# Altium integrated library Renesas Microcontroller 740.IntLib: 274 symbols (part 2 of 13)
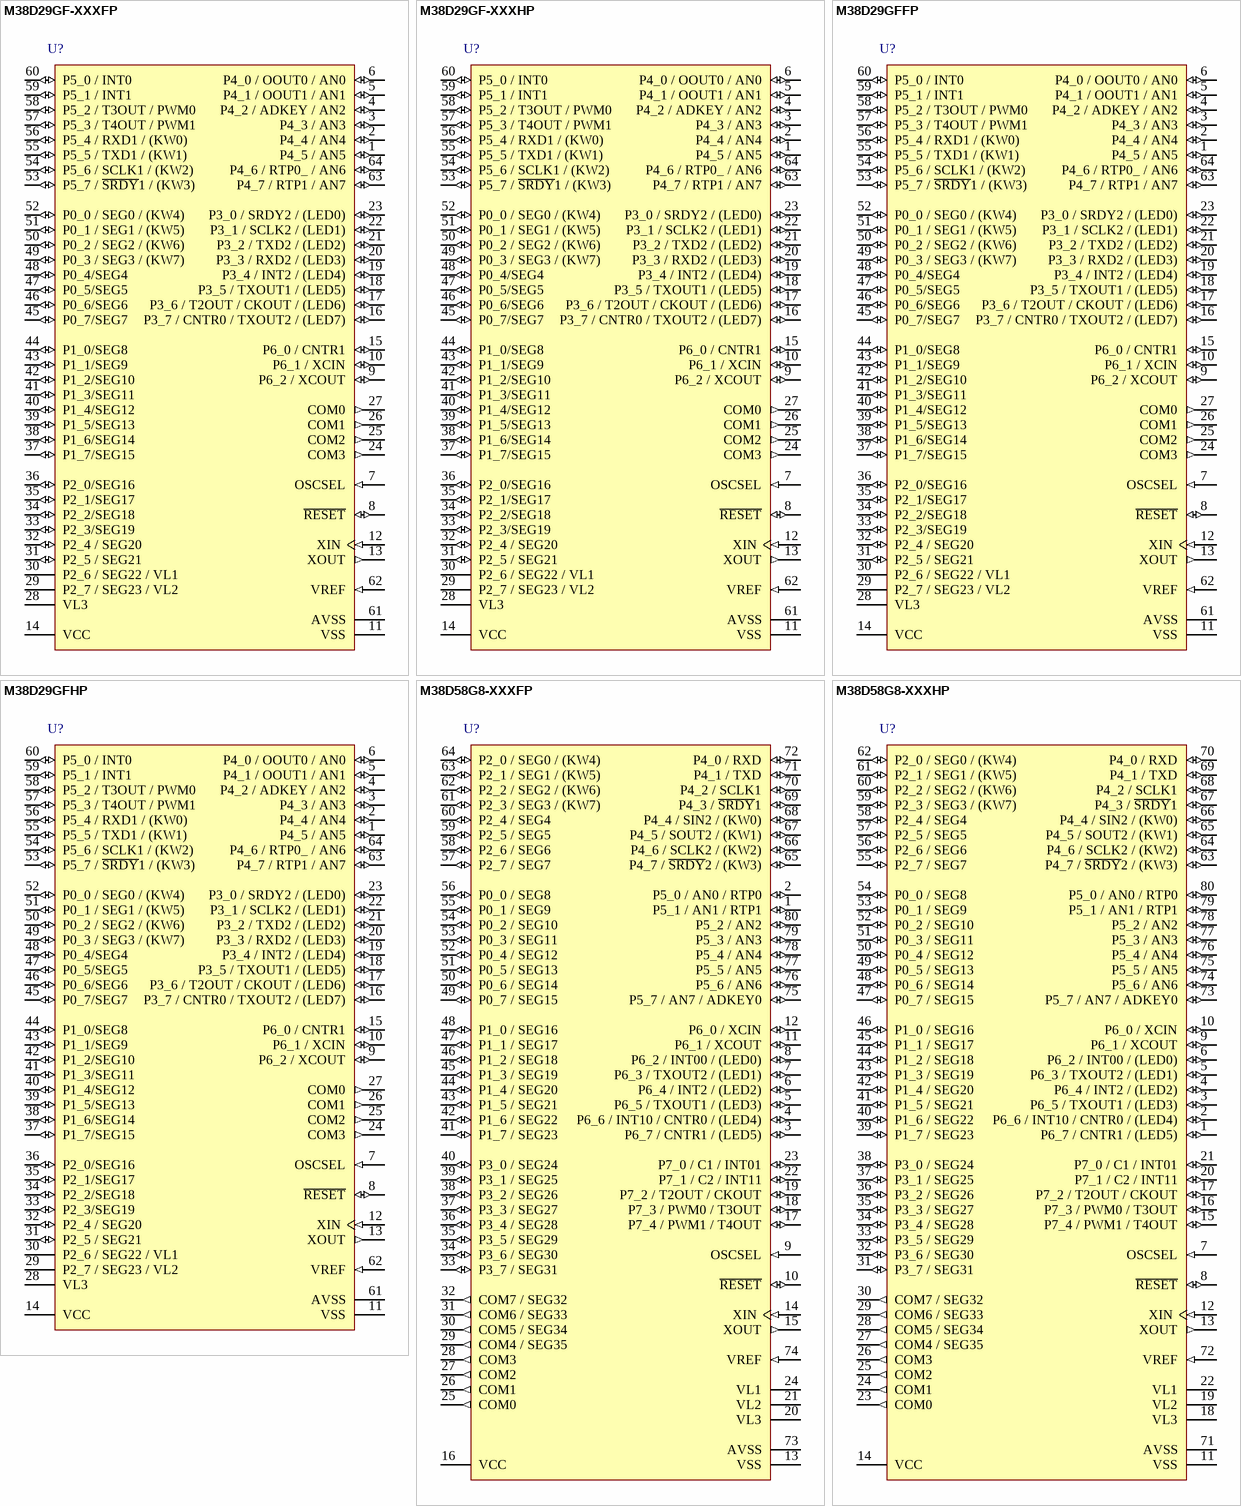
[diagram p38: symbols M38D29GF-XXXFP to M38D58G8-XXXHP]

## M38D29GF-XXXHP
designator U?
QzROM 8-BIT CMOS Microcomputer, 38000/740 Series CPU, 38D2 Group, 60K ROM, 2K RAM, 64P6Q-A Pkg; Published: 28-Aug-2009; DatasheetVersion: Rev.3.02, Apr-2008; PackageVersion: Sep-2005; PackageReference: PLQP0064KB-A; Publisher: Altium Limited; PackageDescription: 64-Pin Plastic Low Profile QFP, 10 x 10 x 1.4 mm Body, 0.5 mm Pitch; Code_JEITA: P-LQFP64-10x10-0.50; Code_IPC: SQFP50P1200X1200-64; ComponentLink1Description: Manufacturer Link; ComponentLink1URL: http://sg.renesas.com/fmwk.jsp?cnt=740_family_landing.jsp&fp=/products/mpumcu/740_family/; ComponentLink2Description: Datasheet; ComponentLink2URL: http://documentation.renesas.com/eng/products/mpumcu/rej03b0177_38d2ds.pdf; ComponentLink3Description: Packaging Specification; ComponentLink3URL: http://sg.renesas.com/media/products/common_info/package/pdf/ic/code/plqp0064kb_a.pdf
footprint PLQP0064KB-A_N (Shrink QFP, 64-Leads, Body 10x10mm, Pitch 0.5mm, IPC Medium Density)
footprint PLQP0064KB-A_L (Shrink QFP, 64-Leads, Body 10x10mm, Pitch 0.5mm, IPC High Density)
footprint PLQP0064KB-A_M (Shrink QFP, 64-Leads, Body 10x10mm, Pitch 0.5mm, IPC Low Density)
pins: 1 P4_5 / AN5 (io), 2 P4_4 / AN4 (io), 3 P4_3 / AN3 (io), 4 P4_2 / ADKEY / AN2 (io), 5 P4_1 / OOUT1 / AN1 (io), 6 P4_0 / OOUT0 / AN0 (io), 7 OSCSEL (in), 8 ~{RESET} (io), 9 P6_2 / XCOUT (io), 10 P6_1 / XCIN (io), 11 VSS (power), 12 XIN (in), 13 XOUT (out), 14 VCC (power), 15 P6_0 / CNTR1 (io), 16 P3_7 / CNTR0 / TXOUT2 / (LED7) (io), 17 P3_6 / T2OUT / CKOUT / (LED6) (io), 18 P3_5 / TXOUT1 / (LED5) (io), 19 P3_4 / INT2 / (LED4) (io), 20 P3_3 / RXD2 / (LED3) (io), 21 P3_2 / TXD2 / (LED2) (io), 22 P3_1 / SCLK2 / (LED1) (io), 23 P3_0 / SRDY2 / (LED0) (io), 24 COM3 (out), 25 COM2 (out), 26 COM1 (out), 27 COM0 (out), 28 VL3 (power), 29 P2_7 / SEG23 / VL2, 30 P2_6 / SEG22 / VL1, 31 P2_5 / SEG21 (io), 32 P2_4 / SEG20 (io), 33 P2_3/SEG19 (io), 34 P2_2/SEG18 (io), 35 P2_1/SEG17 (io), 36 P2_0/SEG16 (io), 37 P1_7/SEG15 (io), 38 P1_6/SEG14 (io), 39 P1_5/SEG13 (io), 40 P1_4/SEG12 (io), 41 P1_3/SEG11 (io), 42 P1_2/SEG10 (io), 43 P1_1/SEG9 (io), 44 P1_0/SEG8 (io), 45 P0_7/SEG7 (io), 46 P0_6/SEG6 (io), 47 P0_5/SEG5 (io), 48 P0_4/SEG4 (io), 49 P0_3 / SEG3 / (KW7) (io), 50 P0_2 / SEG2 / (KW6) (io), 51 P0_1 / SEG1 / (KW5) (io), 52 P0_0 / SEG0 / (KW4) (io), 53 P5_7 / ~{SRDY}1 / (KW3) (io), 54 P5_6 / SCLK1 / (KW2) (io), 55 P5_5 / TXD1 / (KW1) (io), 56 P5_4 / RXD1 / (KW0) (io), 57 P5_3 / T4OUT / PWM1 (io), 58 P5_2 / T3OUT / PWM0 (io), 59 P5_1 / INT1 (io), 60 P5_0 / INT0 (io), 61 AVSS (power), 62 VREF (in), 63 P4_7 / RTP1 / AN7 (io), 64 P4_6 / RTP0_ / AN6 (io)

## M38D29GFFP
designator U?
QzROM 8-BIT CMOS Microcomputer, 38000/740 Series CPU, 38D2 Group, 60K ROM, 2K RAM, 64P6U-A Pkg, shipped in blank; Published: 28-Aug-2009; DatasheetVersion: Rev.3.02, Apr-2008; PackageVersion: Oct-2005; PackageReference: PLQP0064GA-A; Publisher: Altium Limited; PackageDescription: 64-Pin Plastic Low Profile QFP, 14 x 14 x 1.4 mm Body, 0.8 mm Pitch; Code_JEITA: P-LQFP64-14x14-0.80; ComponentLink1Description: Manufacturer Link; ComponentLink1URL: http://sg.renesas.com/fmwk.jsp?cnt=740_family_landing.jsp&fp=/products/mpumcu/740_family/; ComponentLink2Description: Datasheet; ComponentLink2URL: http://documentation.renesas.com/eng/products/mpumcu/rej03b0177_38d2ds.pdf; ComponentLink3Description: Packaging Specification; ComponentLink3URL: http://sg.renesas.com/media/products/common_info/package/pdf/ic/code/plqp0064ga_a.pdf
footprint PLQP0064GA-A_N (QFP, 64-Leads, Body 14x14mm, Pitch 0.8mm, IPC Medium Density)
footprint PLQP0064GA-A_L (QFP, 64-Leads, Body 14x14mm, Pitch 0.8mm, IPC High Density)
footprint PLQP0064GA-A_M (QFP, 64-Leads, Body 14x14mm, Pitch 0.8mm, IPC Low Density)
pins: 1 P4_5 / AN5 (io), 2 P4_4 / AN4 (io), 3 P4_3 / AN3 (io), 4 P4_2 / ADKEY / AN2 (io), 5 P4_1 / OOUT1 / AN1 (io), 6 P4_0 / OOUT0 / AN0 (io), 7 OSCSEL (in), 8 ~{RESET} (io), 9 P6_2 / XCOUT (io), 10 P6_1 / XCIN (io), 11 VSS (power), 12 XIN (in), 13 XOUT (out), 14 VCC (power), 15 P6_0 / CNTR1 (io), 16 P3_7 / CNTR0 / TXOUT2 / (LED7) (io), 17 P3_6 / T2OUT / CKOUT / (LED6) (io), 18 P3_5 / TXOUT1 / (LED5) (io), 19 P3_4 / INT2 / (LED4) (io), 20 P3_3 / RXD2 / (LED3) (io), 21 P3_2 / TXD2 / (LED2) (io), 22 P3_1 / SCLK2 / (LED1) (io), 23 P3_0 / SRDY2 / (LED0) (io), 24 COM3 (out), 25 COM2 (out), 26 COM1 (out), 27 COM0 (out), 28 VL3 (power), 29 P2_7 / SEG23 / VL2, 30 P2_6 / SEG22 / VL1, 31 P2_5 / SEG21 (io), 32 P2_4 / SEG20 (io), 33 P2_3/SEG19 (io), 34 P2_2/SEG18 (io), 35 P2_1/SEG17 (io), 36 P2_0/SEG16 (io), 37 P1_7/SEG15 (io), 38 P1_6/SEG14 (io), 39 P1_5/SEG13 (io), 40 P1_4/SEG12 (io), 41 P1_3/SEG11 (io), 42 P1_2/SEG10 (io), 43 P1_1/SEG9 (io), 44 P1_0/SEG8 (io), 45 P0_7/SEG7 (io), 46 P0_6/SEG6 (io), 47 P0_5/SEG5 (io), 48 P0_4/SEG4 (io), 49 P0_3 / SEG3 / (KW7) (io), 50 P0_2 / SEG2 / (KW6) (io), 51 P0_1 / SEG1 / (KW5) (io), 52 P0_0 / SEG0 / (KW4) (io), 53 P5_7 / ~{SRDY}1 / (KW3) (io), 54 P5_6 / SCLK1 / (KW2) (io), 55 P5_5 / TXD1 / (KW1) (io), 56 P5_4 / RXD1 / (KW0) (io), 57 P5_3 / T4OUT / PWM1 (io), 58 P5_2 / T3OUT / PWM0 (io), 59 P5_1 / INT1 (io), 60 P5_0 / INT0 (io), 61 AVSS (power), 62 VREF (in), 63 P4_7 / RTP1 / AN7 (io), 64 P4_6 / RTP0_ / AN6 (io)

## M38D29GFHP
designator U?
QzROM 8-BIT CMOS Microcomputer, 38000/740 Series CPU, 38D2 Group, 60K ROM, 2K RAM, 64P6Q-A Pkg, shipped in blank; Published: 28-Aug-2009; DatasheetVersion: Rev.3.02, Apr-2008; PackageVersion: Sep-2005; PackageReference: PLQP0064KB-A; Publisher: Altium Limited; PackageDescription: 64-Pin Plastic Low Profile QFP, 10 x 10 x 1.4 mm Body, 0.5 mm Pitch; Code_JEITA: P-LQFP64-10x10-0.50; Code_IPC: SQFP50P1200X1200-64; ComponentLink1Description: Manufacturer Link; ComponentLink1URL: http://sg.renesas.com/fmwk.jsp?cnt=740_family_landing.jsp&fp=/products/mpumcu/740_family/; ComponentLink2Description: Datasheet; ComponentLink2URL: http://documentation.renesas.com/eng/products/mpumcu/rej03b0177_38d2ds.pdf; ComponentLink3Description: Packaging Specification; ComponentLink3URL: http://sg.renesas.com/media/products/common_info/package/pdf/ic/code/plqp0064kb_a.pdf
footprint PLQP0064KB-A_N (Shrink QFP, 64-Leads, Body 10x10mm, Pitch 0.5mm, IPC Medium Density)
footprint PLQP0064KB-A_L (Shrink QFP, 64-Leads, Body 10x10mm, Pitch 0.5mm, IPC High Density)
footprint PLQP0064KB-A_M (Shrink QFP, 64-Leads, Body 10x10mm, Pitch 0.5mm, IPC Low Density)
pins: 1 P4_5 / AN5 (io), 2 P4_4 / AN4 (io), 3 P4_3 / AN3 (io), 4 P4_2 / ADKEY / AN2 (io), 5 P4_1 / OOUT1 / AN1 (io), 6 P4_0 / OOUT0 / AN0 (io), 7 OSCSEL (in), 8 ~{RESET} (io), 9 P6_2 / XCOUT (io), 10 P6_1 / XCIN (io), 11 VSS (power), 12 XIN (in), 13 XOUT (out), 14 VCC (power), 15 P6_0 / CNTR1 (io), 16 P3_7 / CNTR0 / TXOUT2 / (LED7) (io), 17 P3_6 / T2OUT / CKOUT / (LED6) (io), 18 P3_5 / TXOUT1 / (LED5) (io), 19 P3_4 / INT2 / (LED4) (io), 20 P3_3 / RXD2 / (LED3) (io), 21 P3_2 / TXD2 / (LED2) (io), 22 P3_1 / SCLK2 / (LED1) (io), 23 P3_0 / SRDY2 / (LED0) (io), 24 COM3 (out), 25 COM2 (out), 26 COM1 (out), 27 COM0 (out), 28 VL3 (power), 29 P2_7 / SEG23 / VL2, 30 P2_6 / SEG22 / VL1, 31 P2_5 / SEG21 (io), 32 P2_4 / SEG20 (io), 33 P2_3/SEG19 (io), 34 P2_2/SEG18 (io), 35 P2_1/SEG17 (io), 36 P2_0/SEG16 (io), 37 P1_7/SEG15 (io), 38 P1_6/SEG14 (io), 39 P1_5/SEG13 (io), 40 P1_4/SEG12 (io), 41 P1_3/SEG11 (io), 42 P1_2/SEG10 (io), 43 P1_1/SEG9 (io), 44 P1_0/SEG8 (io), 45 P0_7/SEG7 (io), 46 P0_6/SEG6 (io), 47 P0_5/SEG5 (io), 48 P0_4/SEG4 (io), 49 P0_3 / SEG3 / (KW7) (io), 50 P0_2 / SEG2 / (KW6) (io), 51 P0_1 / SEG1 / (KW5) (io), 52 P0_0 / SEG0 / (KW4) (io), 53 P5_7 / ~{SRDY}1 / (KW3) (io), 54 P5_6 / SCLK1 / (KW2) (io), 55 P5_5 / TXD1 / (KW1) (io), 56 P5_4 / RXD1 / (KW0) (io), 57 P5_3 / T4OUT / PWM1 (io), 58 P5_2 / T3OUT / PWM0 (io), 59 P5_1 / INT1 (io), 60 P5_0 / INT0 (io), 61 AVSS (power), 62 VREF (in), 63 P4_7 / RTP1 / AN7 (io), 64 P4_6 / RTP0_ / AN6 (io)

## M38D58G8-XXXFP
designator U?
QzROM 8-BIT CMOS Microcomputer, 38000/740 Series CPU, 38D5 Group, 32K ROM, 1.5K RAM, 80P6N-A Pkg; Published: 28-Aug-2009; DatasheetVersion: Rev.3.04, May-2008; PackageVersion: Sep-2005; PackageReference: PRQP0080GB-A; Publisher: Altium Limited; PackageDescription: 80-Pin Plastic Quad Flat Pack, 20 x 14 x 2.8 mm Body, 0.8 mm Pitch; Code_JEITA: P-QFP80-14x20-0.80; ComponentLink1Description: Manufacturer Link; ComponentLink1URL: http://sg.renesas.com/fmwk.jsp?cnt=740_family_landing.jsp&fp=/products/mpumcu/740_family/; ComponentLink2Description: Datasheet; ComponentLink2URL: http://documentation.renesas.com/eng/products/mpumcu/rej03b0158_38d5ds.pdf; ComponentLink3Description: Packaging Specification; ComponentLink3URL: http://sg.renesas.com/media/products/common_info/package/pdf/ic/code/prqp0080gb_a.pdf
footprint PRQP0080GB-A_N (QFP, 80-Leads, Body 20x14mm, Pitch 0.8mm, IPC Medium Density)
footprint PRQP0080GB-A_L (QFP, 80-Leads, Body 20x14mm, Pitch 0.8mm, IPC High Density)
footprint PRQP0080GB-A_M (QFP, 80-Leads, Body 20x14mm, Pitch 0.8mm, IPC Low Density)
pins: 1 P5_1 / AN1 / RTP1 (io), 2 P5_0 / AN0 / RTP0 (io), 3 P6_7 / CNTR1 / (LED5) (io), 4 P6_6 / INT10 / CNTR0 / (LED4) (io), 5 P6_5 / TXOUT1 / (LED3) (io), 6 P6_4 / INT2 / (LED2) (io), 7 P6_3 / TXOUT2 / (LED1) (io), 8 P6_2 / INT00 / (LED0) (io), 9 OSCSEL (in), 10 ~{RESET} (io), 11 P6_1 / XCOUT (io), 12 P6_0 / XCIN (io), 13 VSS (power), 14 XIN (in), 15 XOUT (out), 16 VCC (power), 17 P7_4 / PWM1 / T4OUT (io), 18 P7_3 / PWM0 / T3OUT (io), 19 P7_2 / T2OUT / CKOUT (io), 20 VL3 (power), 21 VL2 (power), 22 P7_1 / C2 / INT11 (io), 23 P7_0 / C1 / INT01 (io), 24 VL1 (power), 25 COM0 (out), 26 COM1 (out), 27 COM2 (out), 28 COM3 (out), 29 COM4 / SEG35 (out), 30 COM5 / SEG34 (out), 31 COM6 / SEG33 (out), 32 COM7 / SEG32 (out), 33 P3_7 / SEG31 (io), 34 P3_6 / SEG30 (io), 35 P3_5 / SEG29 (io), 36 P3_4 / SEG28 (io), 37 P3_3 / SEG27 (io), 38 P3_2 / SEG26 (io), 39 P3_1 / SEG25 (io), 40 P3_0 / SEG24 (io), 41 P1_7 / SEG23 (io), 42 P1_6 / SEG22 (io), 43 P1_5 / SEG21 (io), 44 P1_4 / SEG20 (io), 45 P1_3 / SEG19 (io), 46 P1_2 / SEG18 (io), 47 P1_1 / SEG17 (io), 48 P1_0 / SEG16 (io), 49 P0_7 / SEG15 (io), 50 P0_6 / SEG14 (io), 51 P0_5 / SEG13 (io), 52 P0_4 / SEG12 (io), 53 P0_3 / SEG11 (io), 54 P0_2 / SEG10 (io), 55 P0_1 / SEG9 (io), 56 P0_0 / SEG8 (io), 57 P2_7 / SEG7 (io), 58 P2_6 / SEG6 (io), 59 P2_5 / SEG5 (io), 60 P2_4 / SEG4 (io), 61 P2_3 / SEG3 / (KW7) (io), 62 P2_2 / SEG2 / (KW6) (io), 63 P2_1 / SEG1 / (KW5) (io), 64 P2_0 / SEG0 / (KW4) (io), 65 P4_7 / ~{SRDY}2 / (KW3) (io), 66 P4_6 / SCLK2 / (KW2) (io), 67 P4_5 / SOUT2 / (KW1) (io), 68 P4_4 / SIN2 / (KW0) (io), 69 P4_3 / ~{SRDY}1 (io), 70 P4_2 / SCLK1 (io), 71 P4_1 / TXD (io), 72 P4_0 / RXD (io), 73 AVSS (power), 74 VREF (in), 75 P5_7 / AN7 / ADKEY0 (io), 76 P5_6 / AN6 (io), 77 P5_5 / AN5 (io), 78 P5_4 / AN4 (io), 79 P5_3 / AN3 (io), 80 P5_2 / AN2 (io)

## M38D58G8-XXXHP
designator U?
QzROM 8-BIT CMOS Microcomputer, 38000/740 Series CPU, 38D5 Group, 32K ROM, 1.5K RAM, 80P6Q-A Pkg; Published: 28-Aug-2009; DatasheetVersion: Rev.3.04, May-2008; PackageVersion: Sep-2005; PackageReference: PLQP0080KB-A; Publisher: Altium Limited; PackageDescription: 80-Pin Plastic Low Profile QFP, 12 x 12 x 1.4 mm Body, 0.5 mm Pitch; Code_JEITA: P-LQFP80-12x12-0.50; Code_IPC: SQFP50P1400X1400-80; ComponentLink1Description: Manufacturer Link; ComponentLink1URL: http://sg.renesas.com/fmwk.jsp?cnt=740_family_landing.jsp&fp=/products/mpumcu/740_family/; ComponentLink2Description: Datasheet; ComponentLink2URL: http://documentation.renesas.com/eng/products/mpumcu/rej03b0158_38d5ds.pdf; ComponentLink3Description: Packaging Specification; ComponentLink3URL: http://sg.renesas.com/media/products/common_info/package/pdf/ic/code/plqp0080kb_a.pdf
footprint PLQP0080KB-A_N (Shrink QFP, 80-Leads, Body 12x12mm, Pitch 0.5mm, IPC Medium Density)
footprint PLQP0080KB-A_L (Shrink QFP, 80-Leads, Body 12x12mm, Pitch 0.5mm, IPC High Density)
footprint PLQP0080KB-A_M (Shrink QFP, 80-Leads, Body 12x12mm, Pitch 0.5mm, IPC Low Density)
pins: 1 P6_7 / CNTR1 / (LED5) (io), 2 P6_6 / INT10 / CNTR0 / (LED4) (io), 3 P6_5 / TXOUT1 / (LED3) (io), 4 P6_4 / INT2 / (LED2) (io), 5 P6_3 / TXOUT2 / (LED1) (io), 6 P6_2 / INT00 / (LED0) (io), 7 OSCSEL (in), 8 ~{RESET} (io), 9 P6_1 / XCOUT (io), 10 P6_0 / XCIN (io), 11 VSS (power), 12 XIN (in), 13 XOUT (out), 14 VCC (power), 15 P7_4 / PWM1 / T4OUT (io), 16 P7_3 / PWM0 / T3OUT (io), 17 P7_2 / T2OUT / CKOUT (io), 18 VL3 (power), 19 VL2 (power), 20 P7_1 / C2 / INT11 (io), 21 P7_0 / C1 / INT01 (io), 22 VL1 (power), 23 COM0 (out), 24 COM1 (out), 25 COM2 (out), 26 COM3 (out), 27 COM4 / SEG35 (out), 28 COM5 / SEG34 (out), 29 COM6 / SEG33 (out), 30 COM7 / SEG32 (out), 31 P3_7 / SEG31 (io), 32 P3_6 / SEG30 (io), 33 P3_5 / SEG29 (io), 34 P3_4 / SEG28 (io), 35 P3_3 / SEG27 (io), 36 P3_2 / SEG26 (io), 37 P3_1 / SEG25 (io), 38 P3_0 / SEG24 (io), 39 P1_7 / SEG23 (io), 40 P1_6 / SEG22 (io), 41 P1_5 / SEG21 (io), 42 P1_4 / SEG20 (io), 43 P1_3 / SEG19 (io), 44 P1_2 / SEG18 (io), 45 P1_1 / SEG17 (io), 46 P1_0 / SEG16 (io), 47 P0_7 / SEG15 (io), 48 P0_6 / SEG14 (io), 49 P0_5 / SEG13 (io), 50 P0_4 / SEG12 (io), 51 P0_3 / SEG11 (io), 52 P0_2 / SEG10 (io), 53 P0_1 / SEG9 (io), 54 P0_0 / SEG8 (io), 55 P2_7 / SEG7 (io), 56 P2_6 / SEG6 (io), 57 P2_5 / SEG5 (io), 58 P2_4 / SEG4 (io), 59 P2_3 / SEG3 / (KW7) (io), 60 P2_2 / SEG2 / (KW6) (io), 61 P2_1 / SEG1 / (KW5) (io), 62 P2_0 / SEG0 / (KW4) (io), 63 P4_7 / ~{SRDY}2 / (KW3) (io), 64 P4_6 / SCLK2 / (KW2) (io), 65 P4_5 / SOUT2 / (KW1) (io), 66 P4_4 / SIN2 / (KW0) (io), 67 P4_3 / ~{SRDY}1 (io), 68 P4_2 / SCLK1 (io), 69 P4_1 / TXD (io), 70 P4_0 / RXD (io), 71 AVSS (power), 72 VREF (in), 73 P5_7 / AN7 / ADKEY0 (io), 74 P5_6 / AN6 (io), 75 P5_5 / AN5 (io), 76 P5_4 / AN4 (io), 77 P5_3 / AN3 (io), 78 P5_2 / AN2 (io), 79 P5_1 / AN1 / RTP1 (io), 80 P5_0 / AN0 / RTP0 (io)

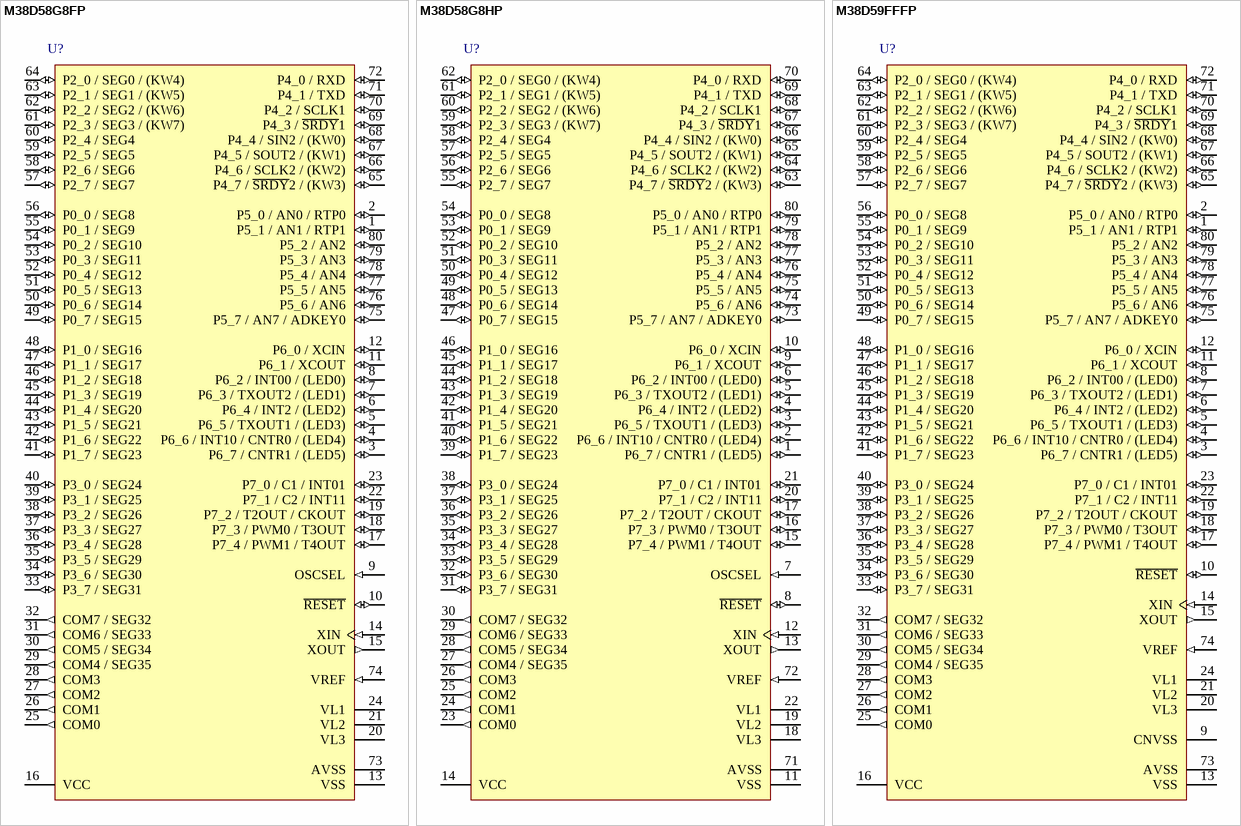
[diagram p4: symbols M38D58G8FP to M38D59FFFP]

## M38D58G8FP
designator U?
QzROM 8-BIT CMOS Microcomputer, 38000/740 Series CPU, 38D5 Group, 32K ROM, 1.5K RAM, 80P6N-A Pkg, shipped in blank; Published: 28-Aug-2009; DatasheetVersion: Rev.3.04, May-2008; PackageVersion: Sep-2005; PackageReference: PRQP0080GB-A; Publisher: Altium Limited; PackageDescription: 80-Pin Plastic Quad Flat Pack, 20 x 14 x 2.8 mm Body, 0.8 mm Pitch; Code_JEITA: P-QFP80-14x20-0.80; ComponentLink1Description: Manufacturer Link; ComponentLink1URL: http://sg.renesas.com/fmwk.jsp?cnt=740_family_landing.jsp&fp=/products/mpumcu/740_family/; ComponentLink2Description: Datasheet; ComponentLink2URL: http://documentation.renesas.com/eng/products/mpumcu/rej03b0158_38d5ds.pdf; ComponentLink3Description: Packaging Specification; ComponentLink3URL: http://sg.renesas.com/media/products/common_info/package/pdf/ic/code/prqp0080gb_a.pdf
footprint PRQP0080GB-A_N (QFP, 80-Leads, Body 20x14mm, Pitch 0.8mm, IPC Medium Density)
footprint PRQP0080GB-A_L (QFP, 80-Leads, Body 20x14mm, Pitch 0.8mm, IPC High Density)
footprint PRQP0080GB-A_M (QFP, 80-Leads, Body 20x14mm, Pitch 0.8mm, IPC Low Density)
pins: 1 P5_1 / AN1 / RTP1 (io), 2 P5_0 / AN0 / RTP0 (io), 3 P6_7 / CNTR1 / (LED5) (io), 4 P6_6 / INT10 / CNTR0 / (LED4) (io), 5 P6_5 / TXOUT1 / (LED3) (io), 6 P6_4 / INT2 / (LED2) (io), 7 P6_3 / TXOUT2 / (LED1) (io), 8 P6_2 / INT00 / (LED0) (io), 9 OSCSEL (in), 10 ~{RESET} (io), 11 P6_1 / XCOUT (io), 12 P6_0 / XCIN (io), 13 VSS (power), 14 XIN (in), 15 XOUT (out), 16 VCC (power), 17 P7_4 / PWM1 / T4OUT (io), 18 P7_3 / PWM0 / T3OUT (io), 19 P7_2 / T2OUT / CKOUT (io), 20 VL3 (power), 21 VL2 (power), 22 P7_1 / C2 / INT11 (io), 23 P7_0 / C1 / INT01 (io), 24 VL1 (power), 25 COM0 (out), 26 COM1 (out), 27 COM2 (out), 28 COM3 (out), 29 COM4 / SEG35 (out), 30 COM5 / SEG34 (out), 31 COM6 / SEG33 (out), 32 COM7 / SEG32 (out), 33 P3_7 / SEG31 (io), 34 P3_6 / SEG30 (io), 35 P3_5 / SEG29 (io), 36 P3_4 / SEG28 (io), 37 P3_3 / SEG27 (io), 38 P3_2 / SEG26 (io), 39 P3_1 / SEG25 (io), 40 P3_0 / SEG24 (io), 41 P1_7 / SEG23 (io), 42 P1_6 / SEG22 (io), 43 P1_5 / SEG21 (io), 44 P1_4 / SEG20 (io), 45 P1_3 / SEG19 (io), 46 P1_2 / SEG18 (io), 47 P1_1 / SEG17 (io), 48 P1_0 / SEG16 (io), 49 P0_7 / SEG15 (io), 50 P0_6 / SEG14 (io), 51 P0_5 / SEG13 (io), 52 P0_4 / SEG12 (io), 53 P0_3 / SEG11 (io), 54 P0_2 / SEG10 (io), 55 P0_1 / SEG9 (io), 56 P0_0 / SEG8 (io), 57 P2_7 / SEG7 (io), 58 P2_6 / SEG6 (io), 59 P2_5 / SEG5 (io), 60 P2_4 / SEG4 (io), 61 P2_3 / SEG3 / (KW7) (io), 62 P2_2 / SEG2 / (KW6) (io), 63 P2_1 / SEG1 / (KW5) (io), 64 P2_0 / SEG0 / (KW4) (io), 65 P4_7 / ~{SRDY}2 / (KW3) (io), 66 P4_6 / SCLK2 / (KW2) (io), 67 P4_5 / SOUT2 / (KW1) (io), 68 P4_4 / SIN2 / (KW0) (io), 69 P4_3 / ~{SRDY}1 (io), 70 P4_2 / SCLK1 (io), 71 P4_1 / TXD (io), 72 P4_0 / RXD (io), 73 AVSS (power), 74 VREF (in), 75 P5_7 / AN7 / ADKEY0 (io), 76 P5_6 / AN6 (io), 77 P5_5 / AN5 (io), 78 P5_4 / AN4 (io), 79 P5_3 / AN3 (io), 80 P5_2 / AN2 (io)

## M38D58G8HP
designator U?
QzROM 8-BIT CMOS Microcomputer, 38000/740 Series CPU, 38D5 Group, 32K ROM, 1.5K RAM, 80P6Q-A Pkg, shipped in blank; Published: 28-Aug-2009; DatasheetVersion: Rev.3.04, May-2008; PackageVersion: Sep-2005; PackageReference: PLQP0080KB-A; Publisher: Altium Limited; PackageDescription: 80-Pin Plastic Low Profile QFP, 12 x 12 x 1.4 mm Body, 0.5 mm Pitch; Code_JEITA: P-LQFP80-12x12-0.50; Code_IPC: SQFP50P1400X1400-80; ComponentLink1Description: Manufacturer Link; ComponentLink1URL: http://sg.renesas.com/fmwk.jsp?cnt=740_family_landing.jsp&fp=/products/mpumcu/740_family/; ComponentLink2Description: Datasheet; ComponentLink2URL: http://documentation.renesas.com/eng/products/mpumcu/rej03b0158_38d5ds.pdf; ComponentLink3Description: Packaging Specification; ComponentLink3URL: http://sg.renesas.com/media/products/common_info/package/pdf/ic/code/plqp0080kb_a.pdf
footprint PLQP0080KB-A_N (Shrink QFP, 80-Leads, Body 12x12mm, Pitch 0.5mm, IPC Medium Density)
footprint PLQP0080KB-A_L (Shrink QFP, 80-Leads, Body 12x12mm, Pitch 0.5mm, IPC High Density)
footprint PLQP0080KB-A_M (Shrink QFP, 80-Leads, Body 12x12mm, Pitch 0.5mm, IPC Low Density)
pins: 1 P6_7 / CNTR1 / (LED5) (io), 2 P6_6 / INT10 / CNTR0 / (LED4) (io), 3 P6_5 / TXOUT1 / (LED3) (io), 4 P6_4 / INT2 / (LED2) (io), 5 P6_3 / TXOUT2 / (LED1) (io), 6 P6_2 / INT00 / (LED0) (io), 7 OSCSEL (in), 8 ~{RESET} (io), 9 P6_1 / XCOUT (io), 10 P6_0 / XCIN (io), 11 VSS (power), 12 XIN (in), 13 XOUT (out), 14 VCC (power), 15 P7_4 / PWM1 / T4OUT (io), 16 P7_3 / PWM0 / T3OUT (io), 17 P7_2 / T2OUT / CKOUT (io), 18 VL3 (power), 19 VL2 (power), 20 P7_1 / C2 / INT11 (io), 21 P7_0 / C1 / INT01 (io), 22 VL1 (power), 23 COM0 (out), 24 COM1 (out), 25 COM2 (out), 26 COM3 (out), 27 COM4 / SEG35 (out), 28 COM5 / SEG34 (out), 29 COM6 / SEG33 (out), 30 COM7 / SEG32 (out), 31 P3_7 / SEG31 (io), 32 P3_6 / SEG30 (io), 33 P3_5 / SEG29 (io), 34 P3_4 / SEG28 (io), 35 P3_3 / SEG27 (io), 36 P3_2 / SEG26 (io), 37 P3_1 / SEG25 (io), 38 P3_0 / SEG24 (io), 39 P1_7 / SEG23 (io), 40 P1_6 / SEG22 (io), 41 P1_5 / SEG21 (io), 42 P1_4 / SEG20 (io), 43 P1_3 / SEG19 (io), 44 P1_2 / SEG18 (io), 45 P1_1 / SEG17 (io), 46 P1_0 / SEG16 (io), 47 P0_7 / SEG15 (io), 48 P0_6 / SEG14 (io), 49 P0_5 / SEG13 (io), 50 P0_4 / SEG12 (io), 51 P0_3 / SEG11 (io), 52 P0_2 / SEG10 (io), 53 P0_1 / SEG9 (io), 54 P0_0 / SEG8 (io), 55 P2_7 / SEG7 (io), 56 P2_6 / SEG6 (io), 57 P2_5 / SEG5 (io), 58 P2_4 / SEG4 (io), 59 P2_3 / SEG3 / (KW7) (io), 60 P2_2 / SEG2 / (KW6) (io), 61 P2_1 / SEG1 / (KW5) (io), 62 P2_0 / SEG0 / (KW4) (io), 63 P4_7 / ~{SRDY}2 / (KW3) (io), 64 P4_6 / SCLK2 / (KW2) (io), 65 P4_5 / SOUT2 / (KW1) (io), 66 P4_4 / SIN2 / (KW0) (io), 67 P4_3 / ~{SRDY}1 (io), 68 P4_2 / SCLK1 (io), 69 P4_1 / TXD (io), 70 P4_0 / RXD (io), 71 AVSS (power), 72 VREF (in), 73 P5_7 / AN7 / ADKEY0 (io), 74 P5_6 / AN6 (io), 75 P5_5 / AN5 (io), 76 P5_4 / AN4 (io), 77 P5_3 / AN3 (io), 78 P5_2 / AN2 (io), 79 P5_1 / AN1 / RTP1 (io), 80 P5_0 / AN0 / RTP0 (io)

## M38D59FFFP
designator U?
Flash Memory 8-BIT CMOS Microcomputer, 38000/740 Series CPU, 38D5 Group, 60K ROM, 2K RAM, 80P6N-A Pkg; Published: 28-Aug-2009; DatasheetVersion: Rev.3.04, May-2008; PackageVersion: Sep-2005; PackageReference: PRQP0080GB-A; Publisher: Altium Limited; PackageDescription: 80-Pin Plastic Quad Flat Pack, 20 x 14 x 2.8 mm Body, 0.8 mm Pitch; Code_JEITA: P-QFP80-14x20-0.80; ComponentLink1Description: Manufacturer Link; ComponentLink1URL: http://sg.renesas.com/fmwk.jsp?cnt=740_family_landing.jsp&fp=/products/mpumcu/740_family/; ComponentLink2Description: Datasheet; ComponentLink2URL: http://documentation.renesas.com/eng/products/mpumcu/rej03b0158_38d5ds.pdf; ComponentLink3Description: Packaging Specification; ComponentLink3URL: http://sg.renesas.com/media/products/common_info/package/pdf/ic/code/prqp0080gb_a.pdf
footprint PRQP0080GB-A_N (QFP, 80-Leads, Body 20x14mm, Pitch 0.8mm, IPC Medium Density)
footprint PRQP0080GB-A_L (QFP, 80-Leads, Body 20x14mm, Pitch 0.8mm, IPC High Density)
footprint PRQP0080GB-A_M (QFP, 80-Leads, Body 20x14mm, Pitch 0.8mm, IPC Low Density)
pins: 1 P5_1 / AN1 / RTP1 (io), 2 P5_0 / AN0 / RTP0 (io), 3 P6_7 / CNTR1 / (LED5) (io), 4 P6_6 / INT10 / CNTR0 / (LED4) (io), 5 P6_5 / TXOUT1 / (LED3) (io), 6 P6_4 / INT2 / (LED2) (io), 7 P6_3 / TXOUT2 / (LED1) (io), 8 P6_2 / INT00 / (LED0) (io), 9 CNVSS (power), 10 ~{RESET} (io), 11 P6_1 / XCOUT (io), 12 P6_0 / XCIN (io), 13 VSS (power), 14 XIN (in), 15 XOUT (out), 16 VCC (power), 17 P7_4 / PWM1 / T4OUT (io), 18 P7_3 / PWM0 / T3OUT (io), 19 P7_2 / T2OUT / CKOUT (io), 20 VL3 (power), 21 VL2 (power), 22 P7_1 / C2 / INT11 (io), 23 P7_0 / C1 / INT01 (io), 24 VL1 (power), 25 COM0 (out), 26 COM1 (out), 27 COM2 (out), 28 COM3 (out), 29 COM4 / SEG35 (out), 30 COM5 / SEG34 (out), 31 COM6 / SEG33 (out), 32 COM7 / SEG32 (out), 33 P3_7 / SEG31 (io), 34 P3_6 / SEG30 (io), 35 P3_5 / SEG29 (io), 36 P3_4 / SEG28 (io), 37 P3_3 / SEG27 (io), 38 P3_2 / SEG26 (io), 39 P3_1 / SEG25 (io), 40 P3_0 / SEG24 (io), 41 P1_7 / SEG23 (io), 42 P1_6 / SEG22 (io), 43 P1_5 / SEG21 (io), 44 P1_4 / SEG20 (io), 45 P1_3 / SEG19 (io), 46 P1_2 / SEG18 (io), 47 P1_1 / SEG17 (io), 48 P1_0 / SEG16 (io), 49 P0_7 / SEG15 (io), 50 P0_6 / SEG14 (io), 51 P0_5 / SEG13 (io), 52 P0_4 / SEG12 (io), 53 P0_3 / SEG11 (io), 54 P0_2 / SEG10 (io), 55 P0_1 / SEG9 (io), 56 P0_0 / SEG8 (io), 57 P2_7 / SEG7 (io), 58 P2_6 / SEG6 (io), 59 P2_5 / SEG5 (io), 60 P2_4 / SEG4 (io), 61 P2_3 / SEG3 / (KW7) (io), 62 P2_2 / SEG2 / (KW6) (io), 63 P2_1 / SEG1 / (KW5) (io), 64 P2_0 / SEG0 / (KW4) (io), 65 P4_7 / ~{SRDY}2 / (KW3) (io), 66 P4_6 / SCLK2 / (KW2) (io), 67 P4_5 / SOUT2 / (KW1) (io), 68 P4_4 / SIN2 / (KW0) (io), 69 P4_3 / ~{SRDY}1 (io), 70 P4_2 / SCLK1 (io), 71 P4_1 / TXD (io), 72 P4_0 / RXD (io), 73 AVSS (power), 74 VREF (in), 75 P5_7 / AN7 / ADKEY0 (io), 76 P5_6 / AN6 (io), 77 P5_5 / AN5 (io), 78 P5_4 / AN4 (io), 79 P5_3 / AN3 (io), 80 P5_2 / AN2 (io)

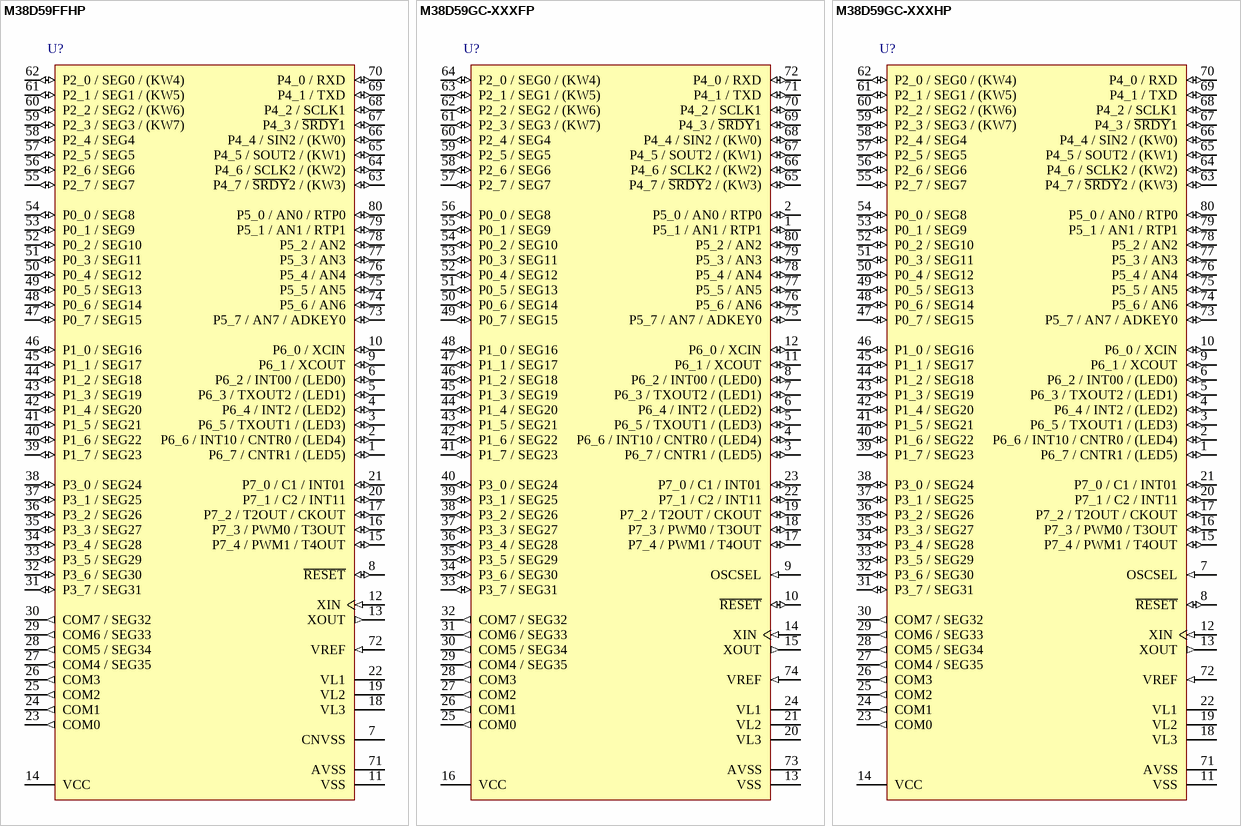
[diagram p5: symbols M38D59FFHP to M38D59GC-XXXHP]

## M38D59FFHP
designator U?
Flash Memory 8-BIT CMOS Microcomputer, 38000/740 Series CPU, 38D5 Group, 60K ROM, 2K RAM, 80P6Q-A Pkg; Published: 28-Aug-2009; DatasheetVersion: Rev.3.04, May-2008; PackageVersion: Sep-2005; PackageReference: PLQP0080KB-A; Publisher: Altium Limited; PackageDescription: 80-Pin Plastic Low Profile QFP, 12 x 12 x 1.4 mm Body, 0.5 mm Pitch; Code_JEITA: P-LQFP80-12x12-0.50; Code_IPC: SQFP50P1400X1400-80; ComponentLink1Description: Manufacturer Link; ComponentLink1URL: http://sg.renesas.com/fmwk.jsp?cnt=740_family_landing.jsp&fp=/products/mpumcu/740_family/; ComponentLink2Description: Datasheet; ComponentLink2URL: http://documentation.renesas.com/eng/products/mpumcu/rej03b0158_38d5ds.pdf; ComponentLink3Description: Packaging Specification; ComponentLink3URL: http://sg.renesas.com/media/products/common_info/package/pdf/ic/code/plqp0080kb_a.pdf
footprint PLQP0080KB-A_N (Shrink QFP, 80-Leads, Body 12x12mm, Pitch 0.5mm, IPC Medium Density)
footprint PLQP0080KB-A_L (Shrink QFP, 80-Leads, Body 12x12mm, Pitch 0.5mm, IPC High Density)
footprint PLQP0080KB-A_M (Shrink QFP, 80-Leads, Body 12x12mm, Pitch 0.5mm, IPC Low Density)
pins: 1 P6_7 / CNTR1 / (LED5) (io), 2 P6_6 / INT10 / CNTR0 / (LED4) (io), 3 P6_5 / TXOUT1 / (LED3) (io), 4 P6_4 / INT2 / (LED2) (io), 5 P6_3 / TXOUT2 / (LED1) (io), 6 P6_2 / INT00 / (LED0) (io), 7 CNVSS (power), 8 ~{RESET} (io), 9 P6_1 / XCOUT (io), 10 P6_0 / XCIN (io), 11 VSS (power), 12 XIN (in), 13 XOUT (out), 14 VCC (power), 15 P7_4 / PWM1 / T4OUT (io), 16 P7_3 / PWM0 / T3OUT (io), 17 P7_2 / T2OUT / CKOUT (io), 18 VL3 (power), 19 VL2 (power), 20 P7_1 / C2 / INT11 (io), 21 P7_0 / C1 / INT01 (io), 22 VL1 (power), 23 COM0 (out), 24 COM1 (out), 25 COM2 (out), 26 COM3 (out), 27 COM4 / SEG35 (out), 28 COM5 / SEG34 (out), 29 COM6 / SEG33 (out), 30 COM7 / SEG32 (out), 31 P3_7 / SEG31 (io), 32 P3_6 / SEG30 (io), 33 P3_5 / SEG29 (io), 34 P3_4 / SEG28 (io), 35 P3_3 / SEG27 (io), 36 P3_2 / SEG26 (io), 37 P3_1 / SEG25 (io), 38 P3_0 / SEG24 (io), 39 P1_7 / SEG23 (io), 40 P1_6 / SEG22 (io), 41 P1_5 / SEG21 (io), 42 P1_4 / SEG20 (io), 43 P1_3 / SEG19 (io), 44 P1_2 / SEG18 (io), 45 P1_1 / SEG17 (io), 46 P1_0 / SEG16 (io), 47 P0_7 / SEG15 (io), 48 P0_6 / SEG14 (io), 49 P0_5 / SEG13 (io), 50 P0_4 / SEG12 (io), 51 P0_3 / SEG11 (io), 52 P0_2 / SEG10 (io), 53 P0_1 / SEG9 (io), 54 P0_0 / SEG8 (io), 55 P2_7 / SEG7 (io), 56 P2_6 / SEG6 (io), 57 P2_5 / SEG5 (io), 58 P2_4 / SEG4 (io), 59 P2_3 / SEG3 / (KW7) (io), 60 P2_2 / SEG2 / (KW6) (io), 61 P2_1 / SEG1 / (KW5) (io), 62 P2_0 / SEG0 / (KW4) (io), 63 P4_7 / ~{SRDY}2 / (KW3) (io), 64 P4_6 / SCLK2 / (KW2) (io), 65 P4_5 / SOUT2 / (KW1) (io), 66 P4_4 / SIN2 / (KW0) (io), 67 P4_3 / ~{SRDY}1 (io), 68 P4_2 / SCLK1 (io), 69 P4_1 / TXD (io), 70 P4_0 / RXD (io), 71 AVSS (power), 72 VREF (in), 73 P5_7 / AN7 / ADKEY0 (io), 74 P5_6 / AN6 (io), 75 P5_5 / AN5 (io), 76 P5_4 / AN4 (io), 77 P5_3 / AN3 (io), 78 P5_2 / AN2 (io), 79 P5_1 / AN1 / RTP1 (io), 80 P5_0 / AN0 / RTP0 (io)

## M38D59GC-XXXFP
designator U?
QzROM 8-BIT CMOS Microcomputer, 38000/740 Series CPU, 38D5 Group, 48K ROM, 2K RAM, 80P6N-A Pkg; Published: 28-Aug-2009; DatasheetVersion: Rev.3.04, May-2008; PackageVersion: Sep-2005; PackageReference: PRQP0080GB-A; Publisher: Altium Limited; PackageDescription: 80-Pin Plastic Quad Flat Pack, 20 x 14 x 2.8 mm Body, 0.8 mm Pitch; Code_JEITA: P-QFP80-14x20-0.80; ComponentLink1Description: Manufacturer Link; ComponentLink1URL: http://sg.renesas.com/fmwk.jsp?cnt=740_family_landing.jsp&fp=/products/mpumcu/740_family/; ComponentLink2Description: Datasheet; ComponentLink2URL: http://documentation.renesas.com/eng/products/mpumcu/rej03b0158_38d5ds.pdf; ComponentLink3Description: Packaging Specification; ComponentLink3URL: http://sg.renesas.com/media/products/common_info/package/pdf/ic/code/prqp0080gb_a.pdf
footprint PRQP0080GB-A_N (QFP, 80-Leads, Body 20x14mm, Pitch 0.8mm, IPC Medium Density)
footprint PRQP0080GB-A_L (QFP, 80-Leads, Body 20x14mm, Pitch 0.8mm, IPC High Density)
footprint PRQP0080GB-A_M (QFP, 80-Leads, Body 20x14mm, Pitch 0.8mm, IPC Low Density)
pins: 1 P5_1 / AN1 / RTP1 (io), 2 P5_0 / AN0 / RTP0 (io), 3 P6_7 / CNTR1 / (LED5) (io), 4 P6_6 / INT10 / CNTR0 / (LED4) (io), 5 P6_5 / TXOUT1 / (LED3) (io), 6 P6_4 / INT2 / (LED2) (io), 7 P6_3 / TXOUT2 / (LED1) (io), 8 P6_2 / INT00 / (LED0) (io), 9 OSCSEL (in), 10 ~{RESET} (io), 11 P6_1 / XCOUT (io), 12 P6_0 / XCIN (io), 13 VSS (power), 14 XIN (in), 15 XOUT (out), 16 VCC (power), 17 P7_4 / PWM1 / T4OUT (io), 18 P7_3 / PWM0 / T3OUT (io), 19 P7_2 / T2OUT / CKOUT (io), 20 VL3 (power), 21 VL2 (power), 22 P7_1 / C2 / INT11 (io), 23 P7_0 / C1 / INT01 (io), 24 VL1 (power), 25 COM0 (out), 26 COM1 (out), 27 COM2 (out), 28 COM3 (out), 29 COM4 / SEG35 (out), 30 COM5 / SEG34 (out), 31 COM6 / SEG33 (out), 32 COM7 / SEG32 (out), 33 P3_7 / SEG31 (io), 34 P3_6 / SEG30 (io), 35 P3_5 / SEG29 (io), 36 P3_4 / SEG28 (io), 37 P3_3 / SEG27 (io), 38 P3_2 / SEG26 (io), 39 P3_1 / SEG25 (io), 40 P3_0 / SEG24 (io), 41 P1_7 / SEG23 (io), 42 P1_6 / SEG22 (io), 43 P1_5 / SEG21 (io), 44 P1_4 / SEG20 (io), 45 P1_3 / SEG19 (io), 46 P1_2 / SEG18 (io), 47 P1_1 / SEG17 (io), 48 P1_0 / SEG16 (io), 49 P0_7 / SEG15 (io), 50 P0_6 / SEG14 (io), 51 P0_5 / SEG13 (io), 52 P0_4 / SEG12 (io), 53 P0_3 / SEG11 (io), 54 P0_2 / SEG10 (io), 55 P0_1 / SEG9 (io), 56 P0_0 / SEG8 (io), 57 P2_7 / SEG7 (io), 58 P2_6 / SEG6 (io), 59 P2_5 / SEG5 (io), 60 P2_4 / SEG4 (io), 61 P2_3 / SEG3 / (KW7) (io), 62 P2_2 / SEG2 / (KW6) (io), 63 P2_1 / SEG1 / (KW5) (io), 64 P2_0 / SEG0 / (KW4) (io), 65 P4_7 / ~{SRDY}2 / (KW3) (io), 66 P4_6 / SCLK2 / (KW2) (io), 67 P4_5 / SOUT2 / (KW1) (io), 68 P4_4 / SIN2 / (KW0) (io), 69 P4_3 / ~{SRDY}1 (io), 70 P4_2 / SCLK1 (io), 71 P4_1 / TXD (io), 72 P4_0 / RXD (io), 73 AVSS (power), 74 VREF (in), 75 P5_7 / AN7 / ADKEY0 (io), 76 P5_6 / AN6 (io), 77 P5_5 / AN5 (io), 78 P5_4 / AN4 (io), 79 P5_3 / AN3 (io), 80 P5_2 / AN2 (io)

## M38D59GC-XXXHP
designator U?
QzROM 8-BIT CMOS Microcomputer, 38000/740 Series CPU, 38D5 Group, 48K ROM, 2K RAM, 80P6Q-A Pkg; Published: 28-Aug-2009; DatasheetVersion: Rev.3.04, May-2008; PackageVersion: Sep-2005; PackageReference: PLQP0080KB-A; Publisher: Altium Limited; PackageDescription: 80-Pin Plastic Low Profile QFP, 12 x 12 x 1.4 mm Body, 0.5 mm Pitch; Code_JEITA: P-LQFP80-12x12-0.50; Code_IPC: SQFP50P1400X1400-80; ComponentLink1Description: Manufacturer Link; ComponentLink1URL: http://sg.renesas.com/fmwk.jsp?cnt=740_family_landing.jsp&fp=/products/mpumcu/740_family/; ComponentLink2Description: Datasheet; ComponentLink2URL: http://documentation.renesas.com/eng/products/mpumcu/rej03b0158_38d5ds.pdf; ComponentLink3Description: Packaging Specification; ComponentLink3URL: http://sg.renesas.com/media/products/common_info/package/pdf/ic/code/plqp0080kb_a.pdf
footprint PLQP0080KB-A_N (Shrink QFP, 80-Leads, Body 12x12mm, Pitch 0.5mm, IPC Medium Density)
footprint PLQP0080KB-A_L (Shrink QFP, 80-Leads, Body 12x12mm, Pitch 0.5mm, IPC High Density)
footprint PLQP0080KB-A_M (Shrink QFP, 80-Leads, Body 12x12mm, Pitch 0.5mm, IPC Low Density)
pins: 1 P6_7 / CNTR1 / (LED5) (io), 2 P6_6 / INT10 / CNTR0 / (LED4) (io), 3 P6_5 / TXOUT1 / (LED3) (io), 4 P6_4 / INT2 / (LED2) (io), 5 P6_3 / TXOUT2 / (LED1) (io), 6 P6_2 / INT00 / (LED0) (io), 7 OSCSEL (in), 8 ~{RESET} (io), 9 P6_1 / XCOUT (io), 10 P6_0 / XCIN (io), 11 VSS (power), 12 XIN (in), 13 XOUT (out), 14 VCC (power), 15 P7_4 / PWM1 / T4OUT (io), 16 P7_3 / PWM0 / T3OUT (io), 17 P7_2 / T2OUT / CKOUT (io), 18 VL3 (power), 19 VL2 (power), 20 P7_1 / C2 / INT11 (io), 21 P7_0 / C1 / INT01 (io), 22 VL1 (power), 23 COM0 (out), 24 COM1 (out), 25 COM2 (out), 26 COM3 (out), 27 COM4 / SEG35 (out), 28 COM5 / SEG34 (out), 29 COM6 / SEG33 (out), 30 COM7 / SEG32 (out), 31 P3_7 / SEG31 (io), 32 P3_6 / SEG30 (io), 33 P3_5 / SEG29 (io), 34 P3_4 / SEG28 (io), 35 P3_3 / SEG27 (io), 36 P3_2 / SEG26 (io), 37 P3_1 / SEG25 (io), 38 P3_0 / SEG24 (io), 39 P1_7 / SEG23 (io), 40 P1_6 / SEG22 (io), 41 P1_5 / SEG21 (io), 42 P1_4 / SEG20 (io), 43 P1_3 / SEG19 (io), 44 P1_2 / SEG18 (io), 45 P1_1 / SEG17 (io), 46 P1_0 / SEG16 (io), 47 P0_7 / SEG15 (io), 48 P0_6 / SEG14 (io), 49 P0_5 / SEG13 (io), 50 P0_4 / SEG12 (io), 51 P0_3 / SEG11 (io), 52 P0_2 / SEG10 (io), 53 P0_1 / SEG9 (io), 54 P0_0 / SEG8 (io), 55 P2_7 / SEG7 (io), 56 P2_6 / SEG6 (io), 57 P2_5 / SEG5 (io), 58 P2_4 / SEG4 (io), 59 P2_3 / SEG3 / (KW7) (io), 60 P2_2 / SEG2 / (KW6) (io), 61 P2_1 / SEG1 / (KW5) (io), 62 P2_0 / SEG0 / (KW4) (io), 63 P4_7 / ~{SRDY}2 / (KW3) (io), 64 P4_6 / SCLK2 / (KW2) (io), 65 P4_5 / SOUT2 / (KW1) (io), 66 P4_4 / SIN2 / (KW0) (io), 67 P4_3 / ~{SRDY}1 (io), 68 P4_2 / SCLK1 (io), 69 P4_1 / TXD (io), 70 P4_0 / RXD (io), 71 AVSS (power), 72 VREF (in), 73 P5_7 / AN7 / ADKEY0 (io), 74 P5_6 / AN6 (io), 75 P5_5 / AN5 (io), 76 P5_4 / AN4 (io), 77 P5_3 / AN3 (io), 78 P5_2 / AN2 (io), 79 P5_1 / AN1 / RTP1 (io), 80 P5_0 / AN0 / RTP0 (io)

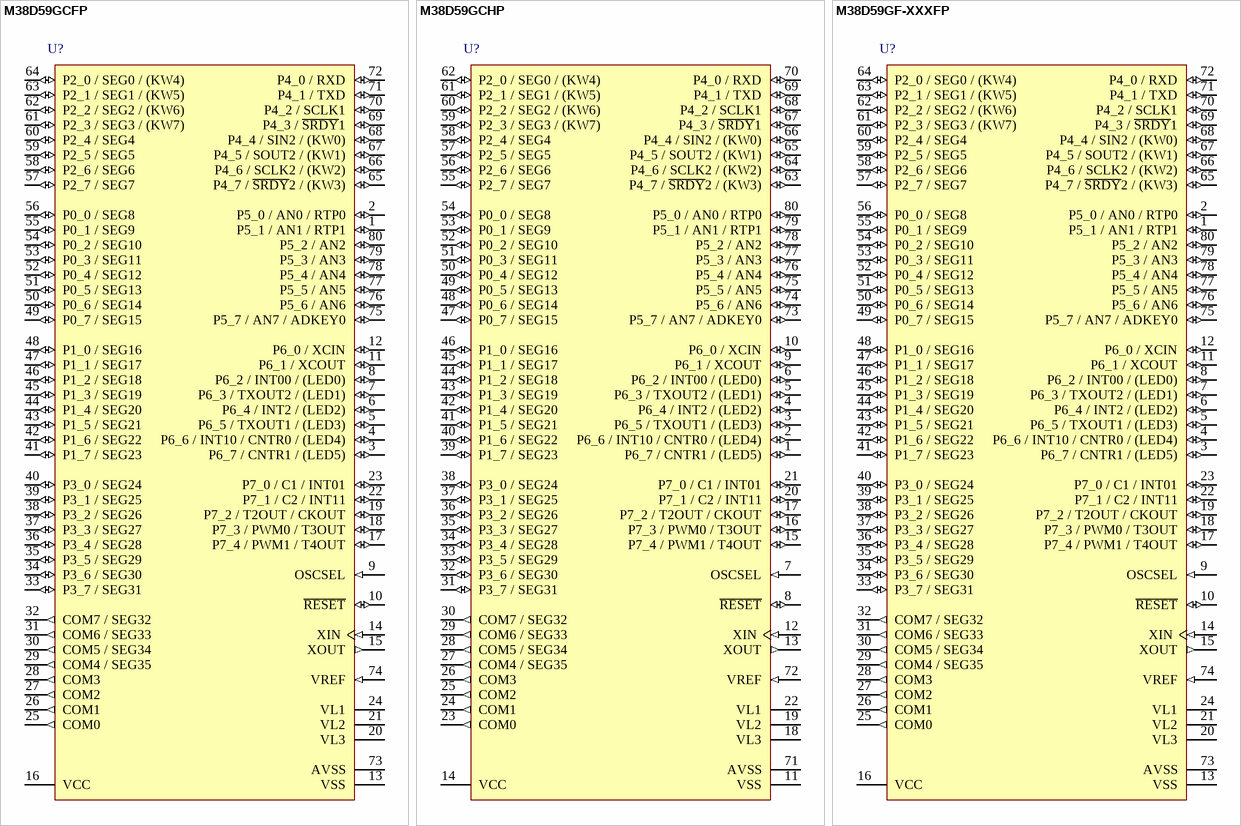
[diagram p6: symbols M38D59GCFP to M38D59GF-XXXFP]

## M38D59GCFP
designator U?
QzROM 8-BIT CMOS Microcomputer, 38000/740 Series CPU, 38D5 Group, 48K ROM, 2K RAM, 80P6N-A Pkg, shipped in blank; Published: 28-Aug-2009; DatasheetVersion: Rev.3.04, May-2008; PackageVersion: Sep-2005; PackageReference: PRQP0080GB-A; Publisher: Altium Limited; PackageDescription: 80-Pin Plastic Quad Flat Pack, 20 x 14 x 2.8 mm Body, 0.8 mm Pitch; Code_JEITA: P-QFP80-14x20-0.80; ComponentLink1Description: Manufacturer Link; ComponentLink1URL: http://sg.renesas.com/fmwk.jsp?cnt=740_family_landing.jsp&fp=/products/mpumcu/740_family/; ComponentLink2Description: Datasheet; ComponentLink2URL: http://documentation.renesas.com/eng/products/mpumcu/rej03b0158_38d5ds.pdf; ComponentLink3Description: Packaging Specification; ComponentLink3URL: http://sg.renesas.com/media/products/common_info/package/pdf/ic/code/prqp0080gb_a.pdf
footprint PRQP0080GB-A_N (QFP, 80-Leads, Body 20x14mm, Pitch 0.8mm, IPC Medium Density)
footprint PRQP0080GB-A_L (QFP, 80-Leads, Body 20x14mm, Pitch 0.8mm, IPC High Density)
footprint PRQP0080GB-A_M (QFP, 80-Leads, Body 20x14mm, Pitch 0.8mm, IPC Low Density)
pins: 1 P5_1 / AN1 / RTP1 (io), 2 P5_0 / AN0 / RTP0 (io), 3 P6_7 / CNTR1 / (LED5) (io), 4 P6_6 / INT10 / CNTR0 / (LED4) (io), 5 P6_5 / TXOUT1 / (LED3) (io), 6 P6_4 / INT2 / (LED2) (io), 7 P6_3 / TXOUT2 / (LED1) (io), 8 P6_2 / INT00 / (LED0) (io), 9 OSCSEL (in), 10 ~{RESET} (io), 11 P6_1 / XCOUT (io), 12 P6_0 / XCIN (io), 13 VSS (power), 14 XIN (in), 15 XOUT (out), 16 VCC (power), 17 P7_4 / PWM1 / T4OUT (io), 18 P7_3 / PWM0 / T3OUT (io), 19 P7_2 / T2OUT / CKOUT (io), 20 VL3 (power), 21 VL2 (power), 22 P7_1 / C2 / INT11 (io), 23 P7_0 / C1 / INT01 (io), 24 VL1 (power), 25 COM0 (out), 26 COM1 (out), 27 COM2 (out), 28 COM3 (out), 29 COM4 / SEG35 (out), 30 COM5 / SEG34 (out), 31 COM6 / SEG33 (out), 32 COM7 / SEG32 (out), 33 P3_7 / SEG31 (io), 34 P3_6 / SEG30 (io), 35 P3_5 / SEG29 (io), 36 P3_4 / SEG28 (io), 37 P3_3 / SEG27 (io), 38 P3_2 / SEG26 (io), 39 P3_1 / SEG25 (io), 40 P3_0 / SEG24 (io), 41 P1_7 / SEG23 (io), 42 P1_6 / SEG22 (io), 43 P1_5 / SEG21 (io), 44 P1_4 / SEG20 (io), 45 P1_3 / SEG19 (io), 46 P1_2 / SEG18 (io), 47 P1_1 / SEG17 (io), 48 P1_0 / SEG16 (io), 49 P0_7 / SEG15 (io), 50 P0_6 / SEG14 (io), 51 P0_5 / SEG13 (io), 52 P0_4 / SEG12 (io), 53 P0_3 / SEG11 (io), 54 P0_2 / SEG10 (io), 55 P0_1 / SEG9 (io), 56 P0_0 / SEG8 (io), 57 P2_7 / SEG7 (io), 58 P2_6 / SEG6 (io), 59 P2_5 / SEG5 (io), 60 P2_4 / SEG4 (io), 61 P2_3 / SEG3 / (KW7) (io), 62 P2_2 / SEG2 / (KW6) (io), 63 P2_1 / SEG1 / (KW5) (io), 64 P2_0 / SEG0 / (KW4) (io), 65 P4_7 / ~{SRDY}2 / (KW3) (io), 66 P4_6 / SCLK2 / (KW2) (io), 67 P4_5 / SOUT2 / (KW1) (io), 68 P4_4 / SIN2 / (KW0) (io), 69 P4_3 / ~{SRDY}1 (io), 70 P4_2 / SCLK1 (io), 71 P4_1 / TXD (io), 72 P4_0 / RXD (io), 73 AVSS (power), 74 VREF (in), 75 P5_7 / AN7 / ADKEY0 (io), 76 P5_6 / AN6 (io), 77 P5_5 / AN5 (io), 78 P5_4 / AN4 (io), 79 P5_3 / AN3 (io), 80 P5_2 / AN2 (io)

## M38D59GCHP
designator U?
QzROM 8-BIT CMOS Microcomputer, 38000/740 Series CPU, 38D5 Group, 48K ROM, 2K RAM, 80P6Q-A Pkg, shipped in blank; Published: 28-Aug-2009; DatasheetVersion: Rev.3.04, May-2008; PackageVersion: Sep-2005; PackageReference: PLQP0080KB-A; Publisher: Altium Limited; PackageDescription: 80-Pin Plastic Low Profile QFP, 12 x 12 x 1.4 mm Body, 0.5 mm Pitch; Code_JEITA: P-LQFP80-12x12-0.50; Code_IPC: SQFP50P1400X1400-80; ComponentLink1Description: Manufacturer Link; ComponentLink1URL: http://sg.renesas.com/fmwk.jsp?cnt=740_family_landing.jsp&fp=/products/mpumcu/740_family/; ComponentLink2Description: Datasheet; ComponentLink2URL: http://documentation.renesas.com/eng/products/mpumcu/rej03b0158_38d5ds.pdf; ComponentLink3Description: Packaging Specification; ComponentLink3URL: http://sg.renesas.com/media/products/common_info/package/pdf/ic/code/plqp0080kb_a.pdf
footprint PLQP0080KB-A_N (Shrink QFP, 80-Leads, Body 12x12mm, Pitch 0.5mm, IPC Medium Density)
footprint PLQP0080KB-A_L (Shrink QFP, 80-Leads, Body 12x12mm, Pitch 0.5mm, IPC High Density)
footprint PLQP0080KB-A_M (Shrink QFP, 80-Leads, Body 12x12mm, Pitch 0.5mm, IPC Low Density)
pins: 1 P6_7 / CNTR1 / (LED5) (io), 2 P6_6 / INT10 / CNTR0 / (LED4) (io), 3 P6_5 / TXOUT1 / (LED3) (io), 4 P6_4 / INT2 / (LED2) (io), 5 P6_3 / TXOUT2 / (LED1) (io), 6 P6_2 / INT00 / (LED0) (io), 7 OSCSEL (in), 8 ~{RESET} (io), 9 P6_1 / XCOUT (io), 10 P6_0 / XCIN (io), 11 VSS (power), 12 XIN (in), 13 XOUT (out), 14 VCC (power), 15 P7_4 / PWM1 / T4OUT (io), 16 P7_3 / PWM0 / T3OUT (io), 17 P7_2 / T2OUT / CKOUT (io), 18 VL3 (power), 19 VL2 (power), 20 P7_1 / C2 / INT11 (io), 21 P7_0 / C1 / INT01 (io), 22 VL1 (power), 23 COM0 (out), 24 COM1 (out), 25 COM2 (out), 26 COM3 (out), 27 COM4 / SEG35 (out), 28 COM5 / SEG34 (out), 29 COM6 / SEG33 (out), 30 COM7 / SEG32 (out), 31 P3_7 / SEG31 (io), 32 P3_6 / SEG30 (io), 33 P3_5 / SEG29 (io), 34 P3_4 / SEG28 (io), 35 P3_3 / SEG27 (io), 36 P3_2 / SEG26 (io), 37 P3_1 / SEG25 (io), 38 P3_0 / SEG24 (io), 39 P1_7 / SEG23 (io), 40 P1_6 / SEG22 (io), 41 P1_5 / SEG21 (io), 42 P1_4 / SEG20 (io), 43 P1_3 / SEG19 (io), 44 P1_2 / SEG18 (io), 45 P1_1 / SEG17 (io), 46 P1_0 / SEG16 (io), 47 P0_7 / SEG15 (io), 48 P0_6 / SEG14 (io), 49 P0_5 / SEG13 (io), 50 P0_4 / SEG12 (io), 51 P0_3 / SEG11 (io), 52 P0_2 / SEG10 (io), 53 P0_1 / SEG9 (io), 54 P0_0 / SEG8 (io), 55 P2_7 / SEG7 (io), 56 P2_6 / SEG6 (io), 57 P2_5 / SEG5 (io), 58 P2_4 / SEG4 (io), 59 P2_3 / SEG3 / (KW7) (io), 60 P2_2 / SEG2 / (KW6) (io), 61 P2_1 / SEG1 / (KW5) (io), 62 P2_0 / SEG0 / (KW4) (io), 63 P4_7 / ~{SRDY}2 / (KW3) (io), 64 P4_6 / SCLK2 / (KW2) (io), 65 P4_5 / SOUT2 / (KW1) (io), 66 P4_4 / SIN2 / (KW0) (io), 67 P4_3 / ~{SRDY}1 (io), 68 P4_2 / SCLK1 (io), 69 P4_1 / TXD (io), 70 P4_0 / RXD (io), 71 AVSS (power), 72 VREF (in), 73 P5_7 / AN7 / ADKEY0 (io), 74 P5_6 / AN6 (io), 75 P5_5 / AN5 (io), 76 P5_4 / AN4 (io), 77 P5_3 / AN3 (io), 78 P5_2 / AN2 (io), 79 P5_1 / AN1 / RTP1 (io), 80 P5_0 / AN0 / RTP0 (io)

## M38D59GF-XXXFP
designator U?
QzROM 8-BIT CMOS Microcomputer, 38000/740 Series CPU, 38D5 Group, 60K ROM, 2K RAM, 80P6N-A Pkg; Published: 28-Aug-2009; DatasheetVersion: Rev.3.04, May-2008; PackageVersion: Sep-2005; PackageReference: PRQP0080GB-A; Publisher: Altium Limited; PackageDescription: 80-Pin Plastic Quad Flat Pack, 20 x 14 x 2.8 mm Body, 0.8 mm Pitch; Code_JEITA: P-QFP80-14x20-0.80; ComponentLink1Description: Manufacturer Link; ComponentLink1URL: http://sg.renesas.com/fmwk.jsp?cnt=740_family_landing.jsp&fp=/products/mpumcu/740_family/; ComponentLink2Description: Datasheet; ComponentLink2URL: http://documentation.renesas.com/eng/products/mpumcu/rej03b0158_38d5ds.pdf; ComponentLink3Description: Packaging Specification; ComponentLink3URL: http://sg.renesas.com/media/products/common_info/package/pdf/ic/code/prqp0080gb_a.pdf
footprint PRQP0080GB-A_N (QFP, 80-Leads, Body 20x14mm, Pitch 0.8mm, IPC Medium Density)
footprint PRQP0080GB-A_L (QFP, 80-Leads, Body 20x14mm, Pitch 0.8mm, IPC High Density)
footprint PRQP0080GB-A_M (QFP, 80-Leads, Body 20x14mm, Pitch 0.8mm, IPC Low Density)
pins: 1 P5_1 / AN1 / RTP1 (io), 2 P5_0 / AN0 / RTP0 (io), 3 P6_7 / CNTR1 / (LED5) (io), 4 P6_6 / INT10 / CNTR0 / (LED4) (io), 5 P6_5 / TXOUT1 / (LED3) (io), 6 P6_4 / INT2 / (LED2) (io), 7 P6_3 / TXOUT2 / (LED1) (io), 8 P6_2 / INT00 / (LED0) (io), 9 OSCSEL (in), 10 ~{RESET} (io), 11 P6_1 / XCOUT (io), 12 P6_0 / XCIN (io), 13 VSS (power), 14 XIN (in), 15 XOUT (out), 16 VCC (power), 17 P7_4 / PWM1 / T4OUT (io), 18 P7_3 / PWM0 / T3OUT (io), 19 P7_2 / T2OUT / CKOUT (io), 20 VL3 (power), 21 VL2 (power), 22 P7_1 / C2 / INT11 (io), 23 P7_0 / C1 / INT01 (io), 24 VL1 (power), 25 COM0 (out), 26 COM1 (out), 27 COM2 (out), 28 COM3 (out), 29 COM4 / SEG35 (out), 30 COM5 / SEG34 (out), 31 COM6 / SEG33 (out), 32 COM7 / SEG32 (out), 33 P3_7 / SEG31 (io), 34 P3_6 / SEG30 (io), 35 P3_5 / SEG29 (io), 36 P3_4 / SEG28 (io), 37 P3_3 / SEG27 (io), 38 P3_2 / SEG26 (io), 39 P3_1 / SEG25 (io), 40 P3_0 / SEG24 (io), 41 P1_7 / SEG23 (io), 42 P1_6 / SEG22 (io), 43 P1_5 / SEG21 (io), 44 P1_4 / SEG20 (io), 45 P1_3 / SEG19 (io), 46 P1_2 / SEG18 (io), 47 P1_1 / SEG17 (io), 48 P1_0 / SEG16 (io), 49 P0_7 / SEG15 (io), 50 P0_6 / SEG14 (io), 51 P0_5 / SEG13 (io), 52 P0_4 / SEG12 (io), 53 P0_3 / SEG11 (io), 54 P0_2 / SEG10 (io), 55 P0_1 / SEG9 (io), 56 P0_0 / SEG8 (io), 57 P2_7 / SEG7 (io), 58 P2_6 / SEG6 (io), 59 P2_5 / SEG5 (io), 60 P2_4 / SEG4 (io), 61 P2_3 / SEG3 / (KW7) (io), 62 P2_2 / SEG2 / (KW6) (io), 63 P2_1 / SEG1 / (KW5) (io), 64 P2_0 / SEG0 / (KW4) (io), 65 P4_7 / ~{SRDY}2 / (KW3) (io), 66 P4_6 / SCLK2 / (KW2) (io), 67 P4_5 / SOUT2 / (KW1) (io), 68 P4_4 / SIN2 / (KW0) (io), 69 P4_3 / ~{SRDY}1 (io), 70 P4_2 / SCLK1 (io), 71 P4_1 / TXD (io), 72 P4_0 / RXD (io), 73 AVSS (power), 74 VREF (in), 75 P5_7 / AN7 / ADKEY0 (io), 76 P5_6 / AN6 (io), 77 P5_5 / AN5 (io), 78 P5_4 / AN4 (io), 79 P5_3 / AN3 (io), 80 P5_2 / AN2 (io)

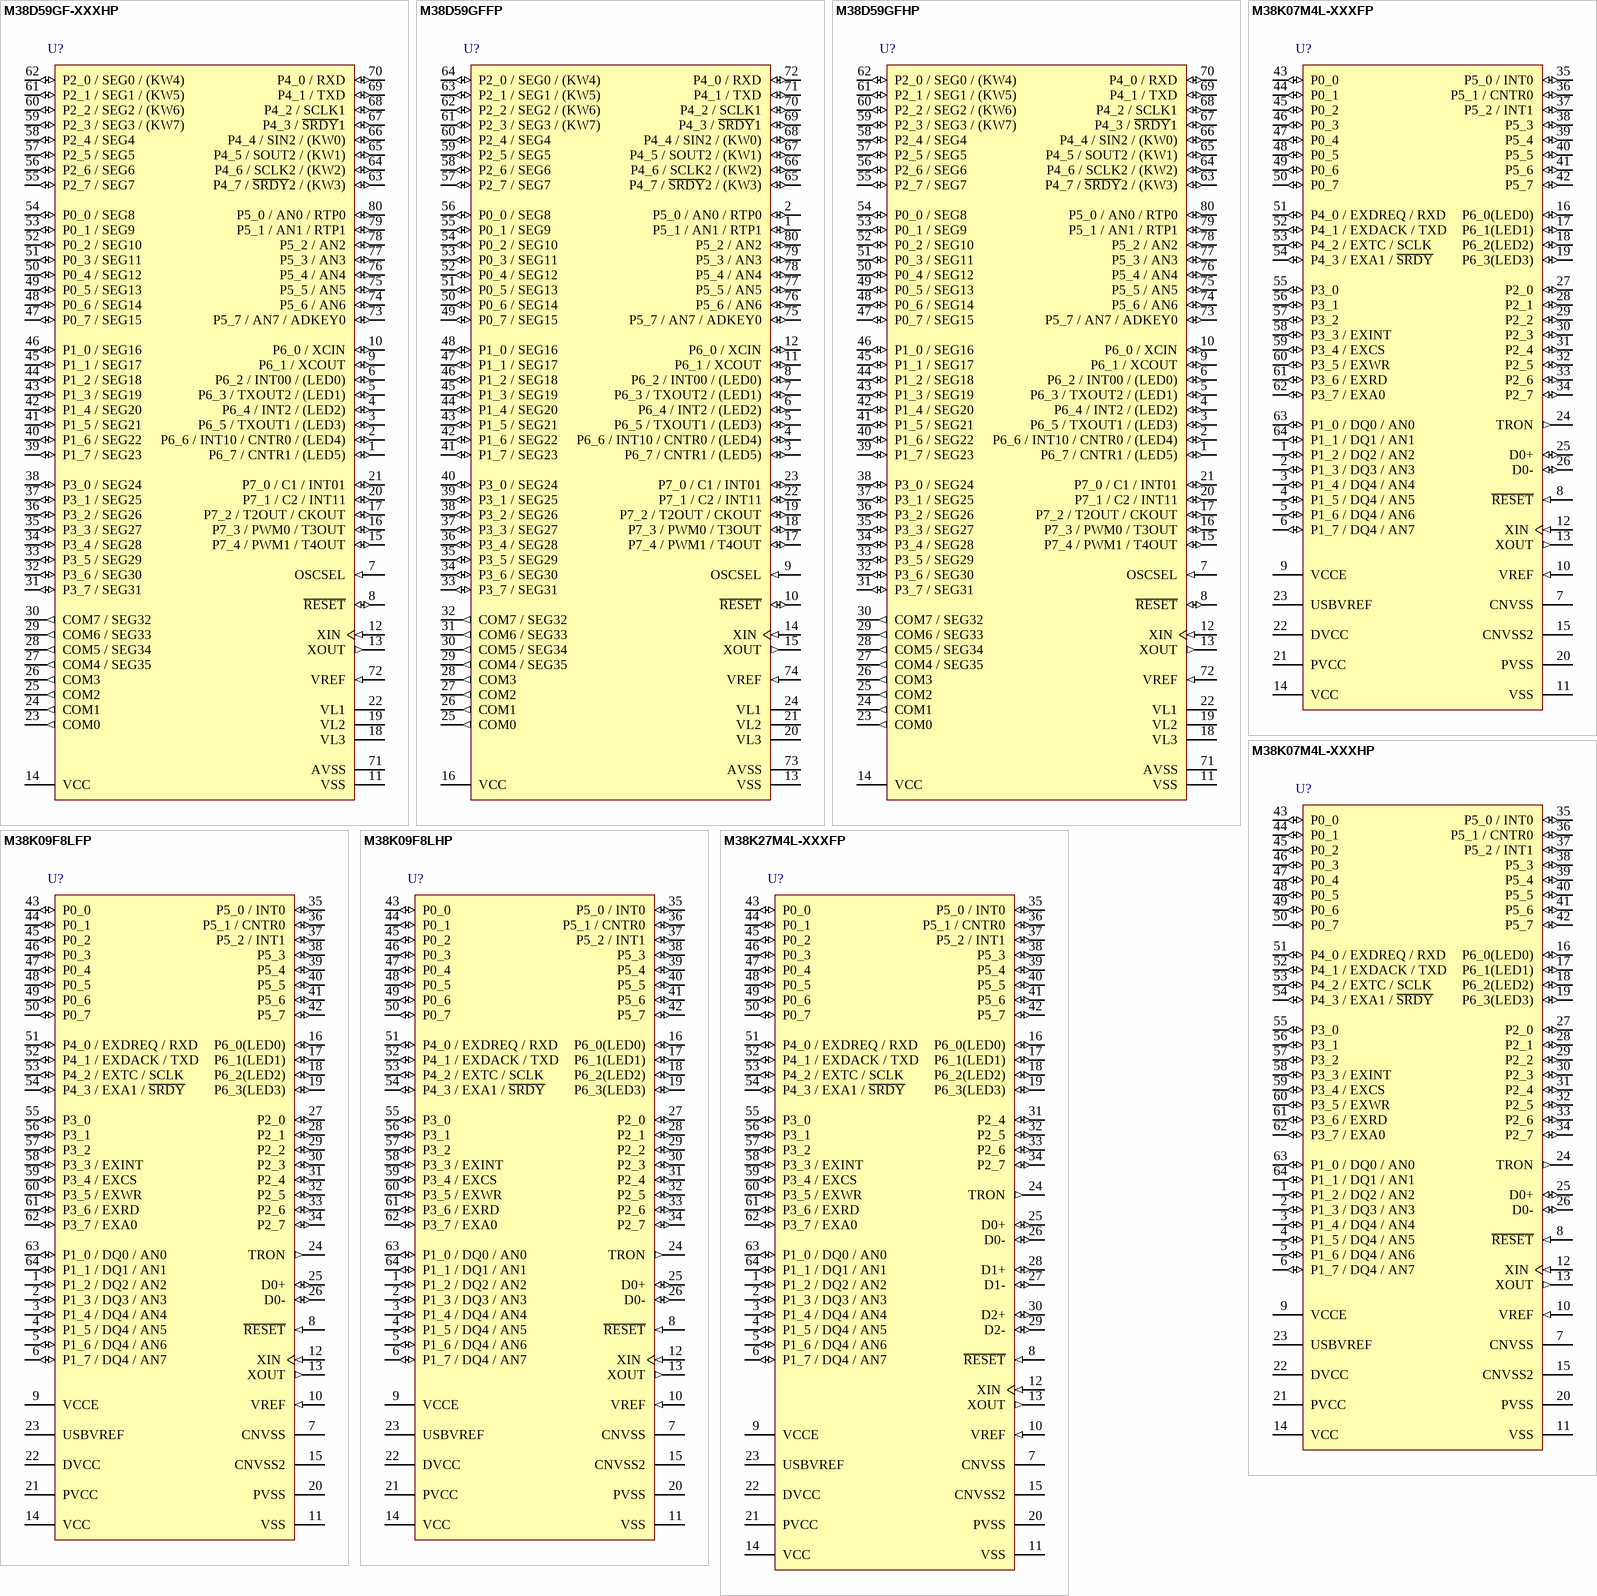
[diagram p7: symbols M38D59GF-XXXHP to M38K27M4L-XXXFP]

## M38D59GF-XXXHP
designator U?
QzROM 8-BIT CMOS Microcomputer, 38000/740 Series CPU, 38D5 Group, 60K ROM, 2K RAM, 80P6Q-A Pkg; Published: 28-Aug-2009; DatasheetVersion: Rev.3.04, May-2008; PackageVersion: Sep-2005; PackageReference: PLQP0080KB-A; Publisher: Altium Limited; PackageDescription: 80-Pin Plastic Low Profile QFP, 12 x 12 x 1.4 mm Body, 0.5 mm Pitch; Code_JEITA: P-LQFP80-12x12-0.50; Code_IPC: SQFP50P1400X1400-80; ComponentLink1Description: Manufacturer Link; ComponentLink1URL: http://sg.renesas.com/fmwk.jsp?cnt=740_family_landing.jsp&fp=/products/mpumcu/740_family/; ComponentLink2Description: Datasheet; ComponentLink2URL: http://documentation.renesas.com/eng/products/mpumcu/rej03b0158_38d5ds.pdf; ComponentLink3Description: Packaging Specification; ComponentLink3URL: http://sg.renesas.com/media/products/common_info/package/pdf/ic/code/plqp0080kb_a.pdf
footprint PLQP0080KB-A_N (Shrink QFP, 80-Leads, Body 12x12mm, Pitch 0.5mm, IPC Medium Density)
footprint PLQP0080KB-A_L (Shrink QFP, 80-Leads, Body 12x12mm, Pitch 0.5mm, IPC High Density)
footprint PLQP0080KB-A_M (Shrink QFP, 80-Leads, Body 12x12mm, Pitch 0.5mm, IPC Low Density)
pins: 1 P6_7 / CNTR1 / (LED5) (io), 2 P6_6 / INT10 / CNTR0 / (LED4) (io), 3 P6_5 / TXOUT1 / (LED3) (io), 4 P6_4 / INT2 / (LED2) (io), 5 P6_3 / TXOUT2 / (LED1) (io), 6 P6_2 / INT00 / (LED0) (io), 7 OSCSEL (in), 8 ~{RESET} (io), 9 P6_1 / XCOUT (io), 10 P6_0 / XCIN (io), 11 VSS (power), 12 XIN (in), 13 XOUT (out), 14 VCC (power), 15 P7_4 / PWM1 / T4OUT (io), 16 P7_3 / PWM0 / T3OUT (io), 17 P7_2 / T2OUT / CKOUT (io), 18 VL3 (power), 19 VL2 (power), 20 P7_1 / C2 / INT11 (io), 21 P7_0 / C1 / INT01 (io), 22 VL1 (power), 23 COM0 (out), 24 COM1 (out), 25 COM2 (out), 26 COM3 (out), 27 COM4 / SEG35 (out), 28 COM5 / SEG34 (out), 29 COM6 / SEG33 (out), 30 COM7 / SEG32 (out), 31 P3_7 / SEG31 (io), 32 P3_6 / SEG30 (io), 33 P3_5 / SEG29 (io), 34 P3_4 / SEG28 (io), 35 P3_3 / SEG27 (io), 36 P3_2 / SEG26 (io), 37 P3_1 / SEG25 (io), 38 P3_0 / SEG24 (io), 39 P1_7 / SEG23 (io), 40 P1_6 / SEG22 (io), 41 P1_5 / SEG21 (io), 42 P1_4 / SEG20 (io), 43 P1_3 / SEG19 (io), 44 P1_2 / SEG18 (io), 45 P1_1 / SEG17 (io), 46 P1_0 / SEG16 (io), 47 P0_7 / SEG15 (io), 48 P0_6 / SEG14 (io), 49 P0_5 / SEG13 (io), 50 P0_4 / SEG12 (io), 51 P0_3 / SEG11 (io), 52 P0_2 / SEG10 (io), 53 P0_1 / SEG9 (io), 54 P0_0 / SEG8 (io), 55 P2_7 / SEG7 (io), 56 P2_6 / SEG6 (io), 57 P2_5 / SEG5 (io), 58 P2_4 / SEG4 (io), 59 P2_3 / SEG3 / (KW7) (io), 60 P2_2 / SEG2 / (KW6) (io), 61 P2_1 / SEG1 / (KW5) (io), 62 P2_0 / SEG0 / (KW4) (io), 63 P4_7 / ~{SRDY}2 / (KW3) (io), 64 P4_6 / SCLK2 / (KW2) (io), 65 P4_5 / SOUT2 / (KW1) (io), 66 P4_4 / SIN2 / (KW0) (io), 67 P4_3 / ~{SRDY}1 (io), 68 P4_2 / SCLK1 (io), 69 P4_1 / TXD (io), 70 P4_0 / RXD (io), 71 AVSS (power), 72 VREF (in), 73 P5_7 / AN7 / ADKEY0 (io), 74 P5_6 / AN6 (io), 75 P5_5 / AN5 (io), 76 P5_4 / AN4 (io), 77 P5_3 / AN3 (io), 78 P5_2 / AN2 (io), 79 P5_1 / AN1 / RTP1 (io), 80 P5_0 / AN0 / RTP0 (io)

## M38D59GFFP
designator U?
QzROM 8-BIT CMOS Microcomputer, 38000/740 Series CPU, 38D5 Group, 60K ROM, 2K RAM, 80P6N-A Pkg, shipped in blank; Published: 28-Aug-2009; DatasheetVersion: Rev.3.04, May-2008; PackageVersion: Sep-2005; PackageReference: PRQP0080GB-A; Publisher: Altium Limited; PackageDescription: 80-Pin Plastic Quad Flat Pack, 20 x 14 x 2.8 mm Body, 0.8 mm Pitch; Code_JEITA: P-QFP80-14x20-0.80; ComponentLink1Description: Manufacturer Link; ComponentLink1URL: http://sg.renesas.com/fmwk.jsp?cnt=740_family_landing.jsp&fp=/products/mpumcu/740_family/; ComponentLink2Description: Datasheet; ComponentLink2URL: http://documentation.renesas.com/eng/products/mpumcu/rej03b0158_38d5ds.pdf; ComponentLink3Description: Packaging Specification; ComponentLink3URL: http://sg.renesas.com/media/products/common_info/package/pdf/ic/code/prqp0080gb_a.pdf
footprint PRQP0080GB-A_N (QFP, 80-Leads, Body 20x14mm, Pitch 0.8mm, IPC Medium Density)
footprint PRQP0080GB-A_L (QFP, 80-Leads, Body 20x14mm, Pitch 0.8mm, IPC High Density)
footprint PRQP0080GB-A_M (QFP, 80-Leads, Body 20x14mm, Pitch 0.8mm, IPC Low Density)
pins: 1 P5_1 / AN1 / RTP1 (io), 2 P5_0 / AN0 / RTP0 (io), 3 P6_7 / CNTR1 / (LED5) (io), 4 P6_6 / INT10 / CNTR0 / (LED4) (io), 5 P6_5 / TXOUT1 / (LED3) (io), 6 P6_4 / INT2 / (LED2) (io), 7 P6_3 / TXOUT2 / (LED1) (io), 8 P6_2 / INT00 / (LED0) (io), 9 OSCSEL (in), 10 ~{RESET} (io), 11 P6_1 / XCOUT (io), 12 P6_0 / XCIN (io), 13 VSS (power), 14 XIN (in), 15 XOUT (out), 16 VCC (power), 17 P7_4 / PWM1 / T4OUT (io), 18 P7_3 / PWM0 / T3OUT (io), 19 P7_2 / T2OUT / CKOUT (io), 20 VL3 (power), 21 VL2 (power), 22 P7_1 / C2 / INT11 (io), 23 P7_0 / C1 / INT01 (io), 24 VL1 (power), 25 COM0 (out), 26 COM1 (out), 27 COM2 (out), 28 COM3 (out), 29 COM4 / SEG35 (out), 30 COM5 / SEG34 (out), 31 COM6 / SEG33 (out), 32 COM7 / SEG32 (out), 33 P3_7 / SEG31 (io), 34 P3_6 / SEG30 (io), 35 P3_5 / SEG29 (io), 36 P3_4 / SEG28 (io), 37 P3_3 / SEG27 (io), 38 P3_2 / SEG26 (io), 39 P3_1 / SEG25 (io), 40 P3_0 / SEG24 (io), 41 P1_7 / SEG23 (io), 42 P1_6 / SEG22 (io), 43 P1_5 / SEG21 (io), 44 P1_4 / SEG20 (io), 45 P1_3 / SEG19 (io), 46 P1_2 / SEG18 (io), 47 P1_1 / SEG17 (io), 48 P1_0 / SEG16 (io), 49 P0_7 / SEG15 (io), 50 P0_6 / SEG14 (io), 51 P0_5 / SEG13 (io), 52 P0_4 / SEG12 (io), 53 P0_3 / SEG11 (io), 54 P0_2 / SEG10 (io), 55 P0_1 / SEG9 (io), 56 P0_0 / SEG8 (io), 57 P2_7 / SEG7 (io), 58 P2_6 / SEG6 (io), 59 P2_5 / SEG5 (io), 60 P2_4 / SEG4 (io), 61 P2_3 / SEG3 / (KW7) (io), 62 P2_2 / SEG2 / (KW6) (io), 63 P2_1 / SEG1 / (KW5) (io), 64 P2_0 / SEG0 / (KW4) (io), 65 P4_7 / ~{SRDY}2 / (KW3) (io), 66 P4_6 / SCLK2 / (KW2) (io), 67 P4_5 / SOUT2 / (KW1) (io), 68 P4_4 / SIN2 / (KW0) (io), 69 P4_3 / ~{SRDY}1 (io), 70 P4_2 / SCLK1 (io), 71 P4_1 / TXD (io), 72 P4_0 / RXD (io), 73 AVSS (power), 74 VREF (in), 75 P5_7 / AN7 / ADKEY0 (io), 76 P5_6 / AN6 (io), 77 P5_5 / AN5 (io), 78 P5_4 / AN4 (io), 79 P5_3 / AN3 (io), 80 P5_2 / AN2 (io)

## M38D59GFHP
designator U?
QzROM 8-BIT CMOS Microcomputer, 38000/740 Series CPU, 38D5 Group, 60K ROM, 2K RAM, 80P6Q-A Pkg, shipped in blank; Published: 28-Aug-2009; DatasheetVersion: Rev.3.04, May-2008; PackageVersion: Sep-2005; PackageReference: PLQP0080KB-A; Publisher: Altium Limited; PackageDescription: 80-Pin Plastic Low Profile QFP, 12 x 12 x 1.4 mm Body, 0.5 mm Pitch; Code_JEITA: P-LQFP80-12x12-0.50; Code_IPC: SQFP50P1400X1400-80; ComponentLink1Description: Manufacturer Link; ComponentLink1URL: http://sg.renesas.com/fmwk.jsp?cnt=740_family_landing.jsp&fp=/products/mpumcu/740_family/; ComponentLink2Description: Datasheet; ComponentLink2URL: http://documentation.renesas.com/eng/products/mpumcu/rej03b0158_38d5ds.pdf; ComponentLink3Description: Packaging Specification; ComponentLink3URL: http://sg.renesas.com/media/products/common_info/package/pdf/ic/code/plqp0080kb_a.pdf
footprint PLQP0080KB-A_N (Shrink QFP, 80-Leads, Body 12x12mm, Pitch 0.5mm, IPC Medium Density)
footprint PLQP0080KB-A_L (Shrink QFP, 80-Leads, Body 12x12mm, Pitch 0.5mm, IPC High Density)
footprint PLQP0080KB-A_M (Shrink QFP, 80-Leads, Body 12x12mm, Pitch 0.5mm, IPC Low Density)
pins: 1 P6_7 / CNTR1 / (LED5) (io), 2 P6_6 / INT10 / CNTR0 / (LED4) (io), 3 P6_5 / TXOUT1 / (LED3) (io), 4 P6_4 / INT2 / (LED2) (io), 5 P6_3 / TXOUT2 / (LED1) (io), 6 P6_2 / INT00 / (LED0) (io), 7 OSCSEL (in), 8 ~{RESET} (io), 9 P6_1 / XCOUT (io), 10 P6_0 / XCIN (io), 11 VSS (power), 12 XIN (in), 13 XOUT (out), 14 VCC (power), 15 P7_4 / PWM1 / T4OUT (io), 16 P7_3 / PWM0 / T3OUT (io), 17 P7_2 / T2OUT / CKOUT (io), 18 VL3 (power), 19 VL2 (power), 20 P7_1 / C2 / INT11 (io), 21 P7_0 / C1 / INT01 (io), 22 VL1 (power), 23 COM0 (out), 24 COM1 (out), 25 COM2 (out), 26 COM3 (out), 27 COM4 / SEG35 (out), 28 COM5 / SEG34 (out), 29 COM6 / SEG33 (out), 30 COM7 / SEG32 (out), 31 P3_7 / SEG31 (io), 32 P3_6 / SEG30 (io), 33 P3_5 / SEG29 (io), 34 P3_4 / SEG28 (io), 35 P3_3 / SEG27 (io), 36 P3_2 / SEG26 (io), 37 P3_1 / SEG25 (io), 38 P3_0 / SEG24 (io), 39 P1_7 / SEG23 (io), 40 P1_6 / SEG22 (io), 41 P1_5 / SEG21 (io), 42 P1_4 / SEG20 (io), 43 P1_3 / SEG19 (io), 44 P1_2 / SEG18 (io), 45 P1_1 / SEG17 (io), 46 P1_0 / SEG16 (io), 47 P0_7 / SEG15 (io), 48 P0_6 / SEG14 (io), 49 P0_5 / SEG13 (io), 50 P0_4 / SEG12 (io), 51 P0_3 / SEG11 (io), 52 P0_2 / SEG10 (io), 53 P0_1 / SEG9 (io), 54 P0_0 / SEG8 (io), 55 P2_7 / SEG7 (io), 56 P2_6 / SEG6 (io), 57 P2_5 / SEG5 (io), 58 P2_4 / SEG4 (io), 59 P2_3 / SEG3 / (KW7) (io), 60 P2_2 / SEG2 / (KW6) (io), 61 P2_1 / SEG1 / (KW5) (io), 62 P2_0 / SEG0 / (KW4) (io), 63 P4_7 / ~{SRDY}2 / (KW3) (io), 64 P4_6 / SCLK2 / (KW2) (io), 65 P4_5 / SOUT2 / (KW1) (io), 66 P4_4 / SIN2 / (KW0) (io), 67 P4_3 / ~{SRDY}1 (io), 68 P4_2 / SCLK1 (io), 69 P4_1 / TXD (io), 70 P4_0 / RXD (io), 71 AVSS (power), 72 VREF (in), 73 P5_7 / AN7 / ADKEY0 (io), 74 P5_6 / AN6 (io), 75 P5_5 / AN5 (io), 76 P5_4 / AN4 (io), 77 P5_3 / AN3 (io), 78 P5_2 / AN2 (io), 79 P5_1 / AN1 / RTP1 (io), 80 P5_0 / AN0 / RTP0 (io)